# Altium schematic symbol library Sch_GB_lib.SchLib: 489 symbols (part 1 of 5)
Pins are listed as number, name and electrical type; pins without a type are passive.

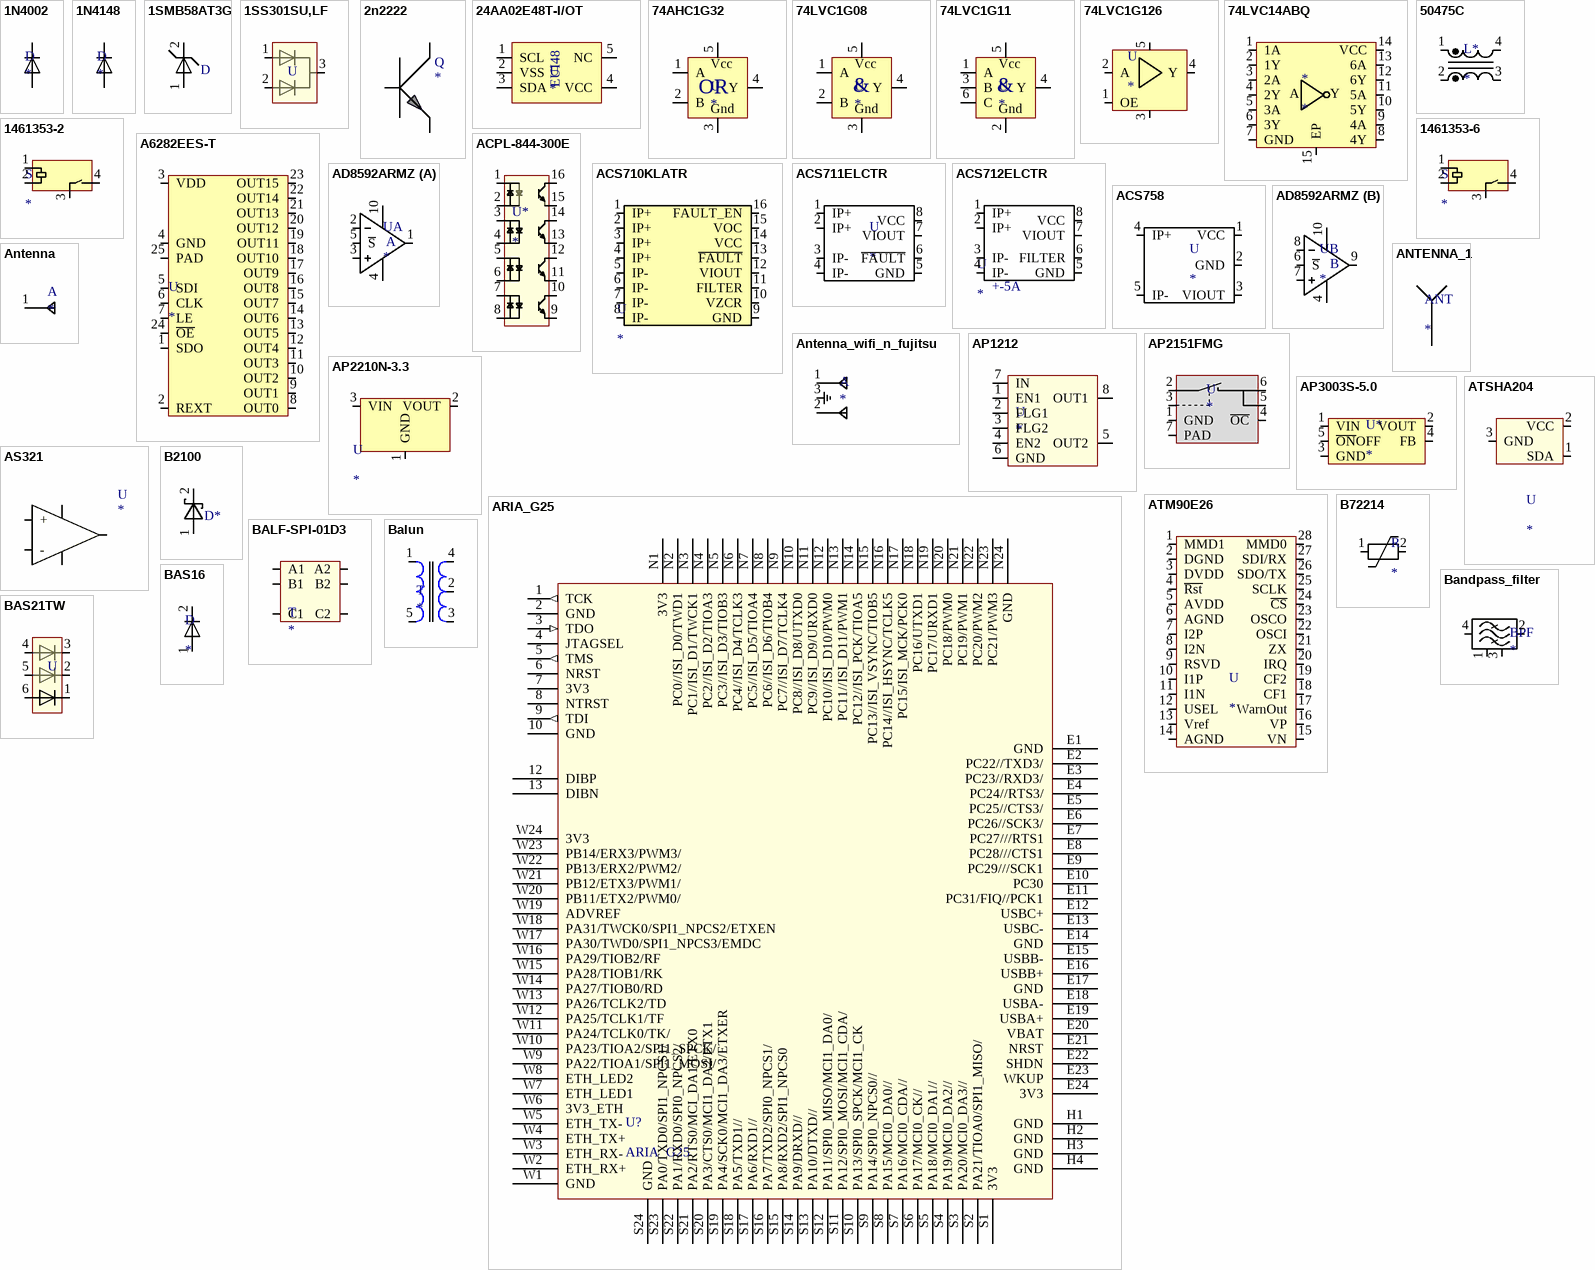
[diagram p0: symbols 1N4002 to BAS21TW]

## 1N4002
designator D
Farnell ref: 1858673; Digikey ref: 1N4002DICT-ND
footprint DO-35 (horizontal radial passive component, case 3.4mm,1.75mm diam.)
pins: 1, 2

## 1N4148
designator D
Farnell ref: 1612346
footprint DO-35 (horizontal radial passive component, case 3.4mm,1.75mm diam.)
pins: 1, 2

## 1SMB58AT3G
designator D  (value not drawn)
Digikey ref: 1SMB58AT3GOSCT-ND
footprint SMB (SMB, case 3.95x4.6x2.5mm)
pins: 1, 2

## 1SS301SU,LF
designator U  (value not drawn)
Digikey ref: 1SS301SULFCT-ND
footprint SC-70 (SC-70, 5 pins, pitch 0.65mm, case 2x1.25mm)
pins: 1, 2, 3

## 2n2222
designator Q
Farnell ref: 9801278
footprint TO18_2n2222a
pins: 1, 2, 3

## 24AA02E48T-I/OT
designator U
Farnell ref: 1688855; Digikey ref: 24AA02E48T-I/OTCT-ND
footprint SOT23-5 (SOT23, 5 pins, pitch 0.95mm, case 3x1.6mm)
pins: 1 SCL, 2 VSS, 3 SDA, 4 VCC, 5 NC
text: EUI48

## 74AHC1G32
designator U
Digikey ref: 74AHC1G32SE-7DICT-ND
footprint SOT23-5 (SOT23, 5 pins, pitch 0.95mm, case 3x1.6mm)
pins: 1 A, 2 B, 3 GND, 4 Y, 5 VCC
text: Vcc; OR; Gnd

## 74LVC1G08
designator U
Farnell ref: 1845210; Digikey ref: 74LVC1G08W5-7DICT-ND
footprint SOT23-5 (SOT23, 5 pins, pitch 0.95mm, case 3x1.6mm)
pins: 1 A, 2 B, 3 GND, 4 Y, 5 VCC
text: Vcc; &; Gnd

## 74LVC1G11
designator U
IC GATE AND 1CH 3-INP SOT-363; Manufacturer: Diodes Inc.; Manufacturer PartNum: 74LVC1G11DW-7; Digikey ref: 74LVC1G11DW-7CT-ND
footprint SOT363 (SOT353, 2.2x1.2mm package, 0.65mm spacing, low density)
pins: 1 A, 2 GND, 3 B, 4 Y, 5 Vcc, 6 C
text: &; Gnd

## 74LVC1G126
designator U
1 line buffer with OE, output tristate
footprint SOT353 (SOT353, 2.2x1.2mm package, 0.65mm spacing, low density)
pins: 1 OE (in), 2 A (in), 3 GND, 4 Y (out), 5 VCC

## 74LVC14ABQ
designator *
pins: 1 1A (in), 2 1Y (out), 3 2A (in), 4 2Y (out), 5 3A (in), 6 3Y (out), 7 GND, 8 4Y (out), 9 4A (in), 10 5Y (out), 11 5A (in), 12 6Y (out), 13 6A (in), 14 VCC, 15 EP
text: A; Y

## 50475C
designator L*
CHOKE COMMON MODE 4.7MH 0.4A SMD; Manufacturer PartNum: 50475C; Manufacturer: Murata; Digikey ref: 811-1186-1-ND
footprint 50475C (Murata, Choke common mode, SMD Package body 7*5.9*3.6mm)
pins: 1, 2, 3, 4

## 1461353-2
designator S
RELAY GENERAL PURPOSE SPST 5A 5V; Manufacturer PartNum: PCH-105L2MH,000; Manufacturer: TE Connectivity; Digikey ref: PB1652-ND
footprint relay_1461353 (RELAY GEN PURPOSE SPST 5A)
pins: 1 A2, 2 A1, 3 I, 4 O1

## 1461353-6
designator S
RELAY GEN PURPOSE SPST 5A 24V; Digikey ref: 1461353-6-ND
footprint relay_1461353-6 (RELAY GEN PURPOSE SPST 5A 24V)
pins: 1 A2, 2 A1, 3 I, 4 O1

## A6282EES-T
designator U
Farnell ref: 1650235
footprint QFN24 (QFN 24 pins, 4x4mm, 0.5mm)
pins: 1 SDO (out), 2 REXT, 3 VDD, 4 GND, 5 SDI (in), 6 CLK (in), 7 LE (in), 8 OUT0 (out), 9 OUT1 (out), 10 OUT2 (out), 11 OUT3 (out), 12 OUT4 (out), 13 OUT5 (out), 14 OUT6 (out), 15 OUT7 (out), 16 OUT8 (out), 17 OUT9 (out), 18 OUT10 (out), 19 OUT11 (out), 20 OUT12 (out), 21 OUT13 (out), 22 OUT14 (out), 23 OUT15 (out), 24 ~{OE} (in), 25 PAD

## ACPL-844-300E
designator U*
Digikey ref: 516-2622-5-ND
footprint DIL-16-SMD_BUTTERFLY (Optocoupler, SMD package, case 6.5x20x3.5mm)
pins: 1 IA1, 2 IB1, 3 IA2, 4 IB2, 5 IA3, 6 IB3, 7 IA4, 8 IB4, 9 E4, 10 C4, 11 E3, 12 C3, 13 E2, 14 C2, 15 E1, 16 C1

## ACS710KLATR
designator U
Farnell ref: 1791413; Digikey ref: 620-1334-1-ND
footprint SO16 (SO16, case 10.3x7.5mm, pitch 1.27mm, 16 leads)
pins: 1 IP+, 2 IP+, 3 IP+, 4 IP+, 5 IP-, 6 IP-, 7 IP-, 8 IP-, 9 GND, 10 VZCR, 11 FILTER, 12 VIOUT, 13 ~{FAULT}, 14 VCC, 15 VOC, 16 FAULT_EN

## ACS711ELCTR
designator U
Digikey ref: 620-1371-1-ND; Farnell ref: 2057424
footprint soic8 (soic8 CMS 8 leads, pitch 1.27mm)
pins: 1 IP+, 2 IP+, 3 IP-, 4 IP-, 5 GND, 6 ~{FAULT}, 7 VIOUT, 8 VCC

## ACS712ELCTR
designator U  Rated current: +-5A
Farnell ref: 1329623; Digikey ref: 620-1189-1-ND
footprint soic8 (soic8 CMS 8 leads, pitch 1.27mm)
pins: 1 IP+, 2 IP+, 3 IP-, 4 IP-, 5 GND, 6 FILTER, 7 VIOUT, 8 VCC

## ACS758
designator U
Farnell ref: 1791393
footprint ALLEGRO_PFF (hall effect current sensor)
pins: 1 VCC, 2 GND, 3 VIOUT, 4 IP+, 5 IP-

## AD8592ARMZ
designator U
Farnell ref: 9994270
footprint uSOIC (10 Leads uSOIC, pitch 0.5mm, 3.2x5.2mm)
part A pins: 1, 2, 3, 4, 5 ~{S}, 10
part B pins: 4, 6 ~{S}, 7, 8, 9, 10
part A text: A
part B text: B

## Antenna
designator A  (no BOM)
Farnell ref: *; Type: Microstrip
footprint Antenna_meander_2.4GHz (Meander-like PCB antenna for 2.4 GHz. Ideal for 0.7mm Core thickness)
pins: 1

## ANTENNA_1
designator ANT  (no BOM)
Input Power: Input Power Value; Impedance: Impedance Value; Digikey ref: 712-1399-6-ND; Farnell ref: *; Type: Antenna Model; Frequency Range: Frequency Range
footprint 0868AT43A0020 (868MHZ ANTENNA)
footprint 868AT43A0020_CCW (Chip antenna, 2-Leads, Body 7.0x2.0mm, IPC Medium Density)
pins: 1

## Antenna_wifi_n_fujitsu
designator A  (no BOM)
Type: Microstrip
footprint Antenna_double_2.4GHz_fujitsu (double microstrip antenna for 802.11n Fujistu module)
pins: 1, 2, 3 GND

## AP1212
designator U, comment Be careful concerning input EN polarity  (value not drawn)
Farnell ref: 1825302; Digikey ref: AP1212HSLDICT-ND; warn: be careful concerning input EN polarity; Comment_1: *
footprint soic8 (soic8 CMS 8 leads, pitch 1.27mm)
pins: 1 EN1, 2 FLG1, 3 FLG2, 4 EN2, 5 OUT2, 6 GND, 7 IN, 8 OUT1

## AP2151FMG
designator U
Digikey ref: AP2151FMG-7DICT-ND; Farnell ref: 1843872 pour boitier SOT25!
footprint DFN2018-6 (DFN2018-6 with thermal-pad, case 1.8x2mm, 6 pins, pitch 0.5mm)
pins: 1 GND (power), 2 Vin, 3 ON (in), 4 ~{OC}, 5 Vout, 6 Vout, 7 PAD (power)

## AP2210N-3.3
designator U
IC REG LDO 3.3V 0.3A SOT23; Manufacturer: Diodes Inc.; Manufacturer PartNum: AP2210N-3.3TRG1; Farnell ref: *; Digikey ref: AP2210N-3.3TRG1DICT-ND
footprint sot23 (SOT23, 2.9x1.3mm, 3 leads)
pins: 1 GND, 2 VOUT, 3 VIN

## AP3003S-5.0
designator U*
Buck Switching Regulator IC Positive Fixed 5V 1 Output 3A; Manufacturer PartNum: AP3003S-5.0TRE1; Manufacturer: Diodes Inc.; Digikey ref: AP3003S-5.0TRE1DICT-ND
footprint TO263_5 (TO263, 5 pins, 8.4x10mm package, 1.7mm pin spacing)
pins: 1 VIN, 2 VOUT, 3 GND, 4 FB, 5 ~{ON}OFF

## ARIA_G25
designator U?
footprint AB ARIA 1
pins: 1 TCK (out), 2 GND (power), 3 TDO (in), 4 JTAGSEL, 5 TMS (out), 6 NRST, 7 3V3 (power), 8 NTRST, 9 TDI (out), 10 GND, 12 DIBP, 13 DIBN, E1 GND, E2 PC22//TXD3/, E3 PC23//RXD3/, E4 PC24//RTS3/, E5 PC25//CTS3/, E6 PC26//SCK3/, E7 PC27///RTS1, E8 PC28///CTS1, E9 PC29///SCK1, E10 PC30, E11 PC31/FIQ//PCK1, E12 USBC+, E13 USBC-, E14 GND, E15 USBB-, E16 USBB+, E17 GND, E18 USBA-, E19 USBA+, E20 VBAT, E21 NRST, E22 SHDN, E23 WKUP, E24 3V3, H1 GND, H2 GND, H3 GND, H4 GND, N1 3V3, N2 PC0//ISI_D0/TWD1, N3 PC1//ISI_D1/TWCK1, N4 PC2//ISI_D2/TIOA3, N5 PC3//ISI_D3/TIOB3, N6 PC4//ISI_D4/TCLK3, N7 PC5//ISI_D5/TIOA4, N8 PC6//ISI_D6/TIOB4, N9 PC7//ISI_D7/TCLK4, N10 PC8//ISI_D8/UTXD0, N11 PC9//ISI_D9/URXD0, N12 PC10//ISI_D10/PWM0, N13 PC11//ISI_D11/PWM1, N14 PC12//ISI_PCK/TIOA5, N15 PC13//ISI_VSYNC/TIOB5, N16 PC14//ISI_HSYNC/TCLK5, N17 PC15/ISI_MCK/PCK0, N18 PC16/UTXD1, N19 PC17/URXD1, N20 PC18/PWM0, N21 PC19/PWM1, N22 PC20/PWM2, N23 PC21/PWM3, N24 GND, S1 3V3, S2 PA21/TIOA0/SPI1_MISO/, S3 PA20/MCI0_DA3//, S4 PA19/MCI0_DA2//, S5 PA18/MCI0_DA1//, S6 PA17/MCI0_CK//, S7 PA16/MCI0_CDA//, S8 PA15/MCI0_DA0//, S9 PA14/SPI0_NPCS0//, S10 PA13/SPI0_SPCK/MCI1_CK, S11 PA12/SPI0_MOSI/MCI1_CDA/, S12 PA11/SPI0_MISO/MCI1_DA0/, S13 PA10/DTXD//, S14 PA9/DRXD//, S15 PA8/RXD2/SPI1_NPCS0, S16 PA7/TXD2/SPI0_NPCS1/, S17 PA6/RXD1//, S18 PA5/TXD1//, S19 PA4/SCK0/MCI1_DA3/ETXER, S20 PA3/CTS0/MCI1_DA2/ETX1, S21 PA2/RTS0/MCI_DA1/ETX0, S22 PA1/RXD0/SPI0_NPCS2/, S23 PA0/TXD0/SPI1_NPCS1/, S24 GND, W1 GND (power), W2 ETH_RX+, W3 ETH_RX-, W4 ETH_TX+, W5 ETH_TX-, W6 3V3_ETH, W7 ETH_LED1, W8 ETH_LED2, W9 PA22/TIOA1/SPI1_MOSI/, W10 PA23/TIOA2/SPI1_SPCK/, W11 PA24/TCLK0/TK/, W12 PA25/TCLK1/TF, W13 PA26/TCLK2/TD, W14 PA27/TIOB0/RD, W15 PA28/TIOB1/RK, W16 PA29/TIOB2/RF, W17 PA30/TWD0/SPI1_NPCS3/EMDC, W18 PA31/TWCK0/SPI1_NPCS2/ETXEN, W19 ADVREF, W20 PB11/ETX2/PWM0/, W21 PB12/ETX3/PWM1/, W22 PB13/ERX2/PWM2/, W23 PB14/ERX3/PWM3/, W24 3V3

## AS321
designator U
IC OPAMP GEN PURP SOT25; Manufacturer PartNum: AS321KTR-G1; Manufacturer: Diodes Inc.; Farnell ref: 9778764RL; Digikey ref: AS321KTR-G1DICT-ND
footprint SOT23-5 (SOT23, 5 pins, pitch 0.95mm, case 3x1.6mm)
pins: 1 +, 2 Vee, 3 -, 4 OUT, 5 Vcc

## ATM90E26
designator U
IC ENERGY METER 1.8V/3V 28SSOP; Manufacturer: Atmel; Manufacturer PartNum: ATM90E26-YU-B; Digikey ref: ATM90E26-YU-B-ND
footprint SSOP28 (SOP, 28-Leads, Body 10.2x5.3mm, Pitch 0.65mm, IPC Medium Density)
pins: 1 MMD1, 2 DGND, 3 DVDD, 4 ~{Rst}, 5 AVDD, 6 AGND, 7 I2P, 8 I2N, 9 RSVD, 10 I1P, 11 I1N, 12 USEL, 13 Vref, 14 AGND, 15 VN, 16 VP, 17 WarnOut, 18 CF1, 19 CF2, 20 IRQ, 21 ZX, 22 OSCI, 23 OSCO, 24 ~{CS}, 25 SCLK, 26 SDO/TX, 27 SDI/RX, 28 MMD0

## ATSHA204
designator U
Digikey ref: ATSHA204-RBH-TCT-ND
footprint SOT23 (SOT23, 2.9x1.3mm, 3 leads)
pins: 1 SDA, 2 VCC, 3 GND

## B2100
designator D*  (value not drawn)
Farnell ref: 1858606; Digikey ref: B2100-FDICT-ND; status: *
footprint SMB (SMB, case 3.95x4.6x2.5mm)
pins: 1, 2

## B72214
designator R
Full reference: B72214P2351K101; Digikey ref: 495-6609-ND; Farnell: 1781931
footprint B72214*_TDK_Varistor (14mm diameter leaded varistor)
pins: 1, 2

## BALF-SPI-01D3
designator T
Manufacturer ref: BALF-SPI-01D3
footprint BALF-SPI-01D3_PCB (0.5mm pitch, 6 ball Balun , STMicro)
pins: 1 A1, 2 A2, 3 B1, 4 B2, 5 C2, 6 C1

## Balun
designator T
Manufacturer ref: WE748-421-245; Digikey ref: 732-2230-1-ND
footprint BALUN_WUERTH_0805 (Chip-Balun WE_BAL for 2400-2500 MHz, 50/100ohm)
pins: 1 Unbalanced Port IN, 2 GND or DC FEED, 3 Balanced Port OUT1, 4 Balanced Port OUT 2, 5 GND, 6 NC

## Bandpass_filter
designator BPF
Digikey ref: 712-1081-1-ND
footprint BAND_PASS_FILTER_JOHANSON_TECH (2.45 GHz Band Pass Filter 2450BP15E0100 0805)
pins: 1 GND, 2 OUT, 3 GND, 4 IN

## BAS16
designator D
BAS16 fast switching diode; Farnell ref: 1056496
footprint SOT23 (SOT23, 2.9x1.3mm, 3 leads)
pins: 1, 2

## BAS21TW
designator U  (value not drawn)
Digikey ref: BAS21TW-7DICT-ND
footprint SOT363 (SOT353, 2.2x1.2mm package, 0.65mm spacing, low density)
pins: 1, 2, 3, 4, 5, 6

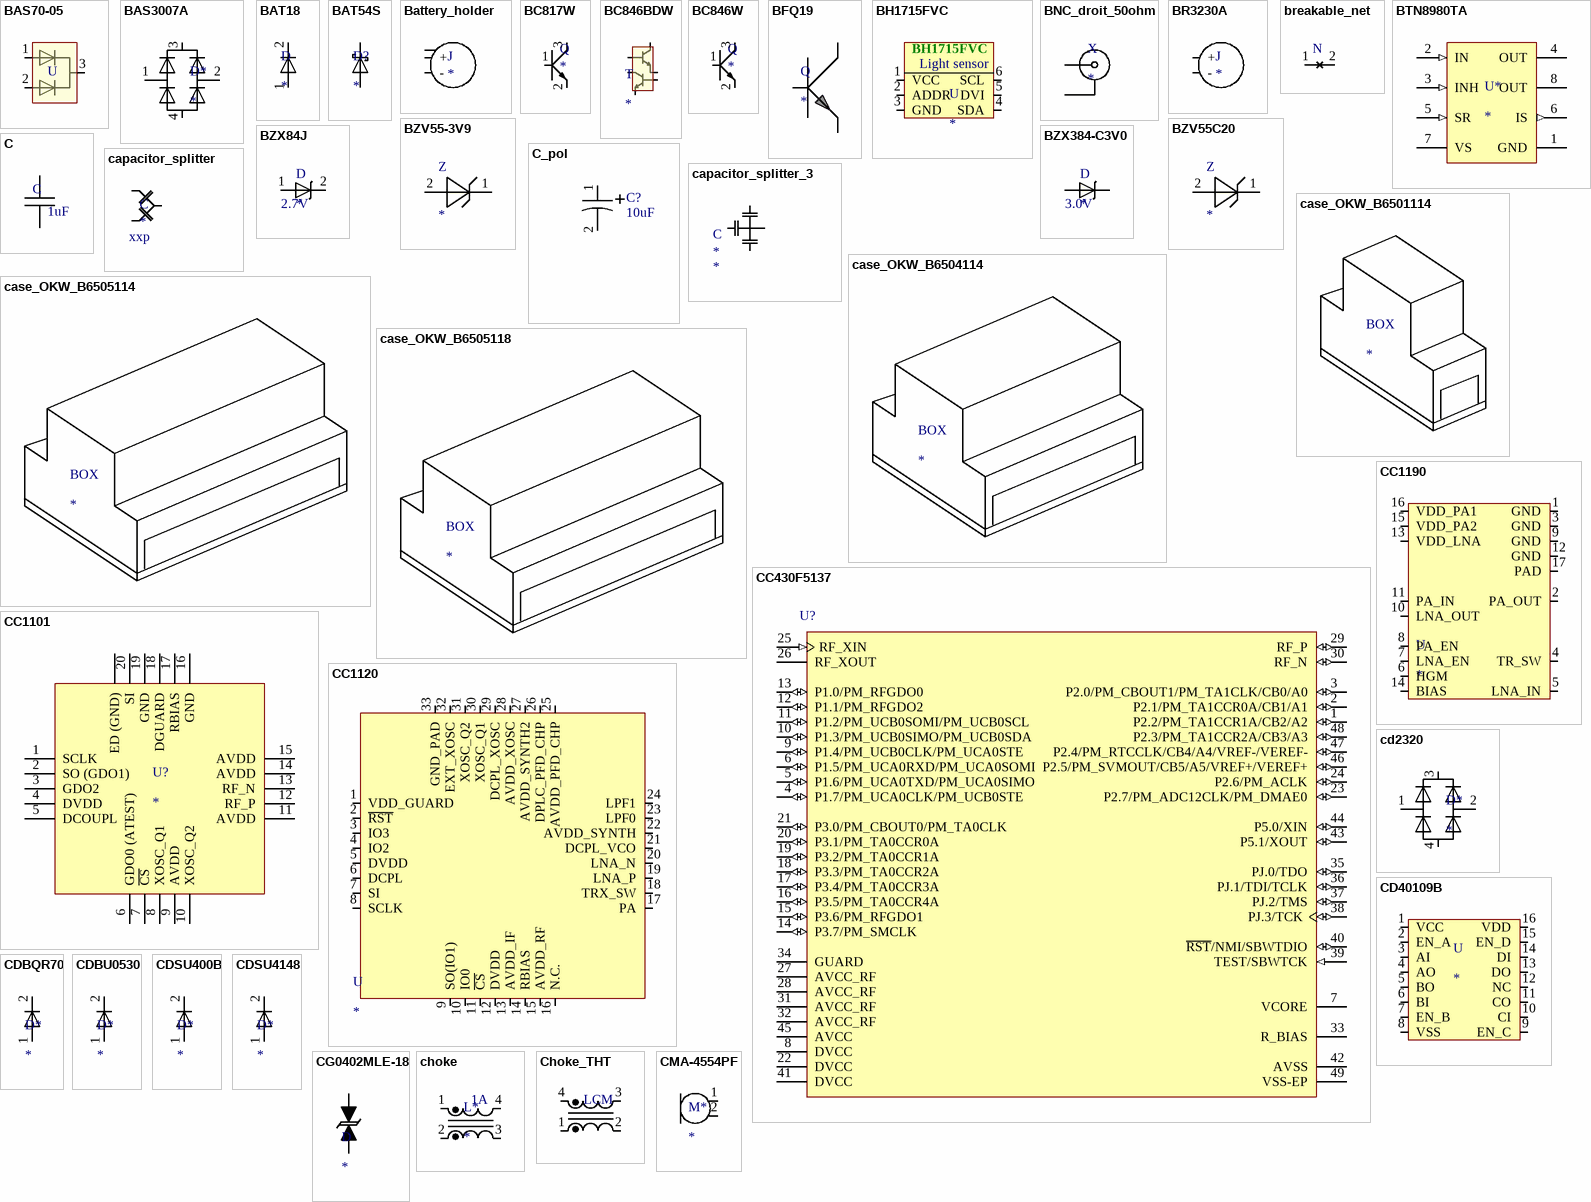
[diagram p1: symbols BAS70-05 to CMA-4554PF]

## BAS70-05
designator U  (value not drawn)
Digikey ref: BAS70-05-FDICT-ND; Farnell ref: 1843767
footprint SOT23 (SOT23, 2.9x1.3mm, 3 leads)
pins: 1, 2, 3

## BAS3007A
designator D*
DIODE SCHOTTKY 30V 900MA SOT143; Manufacturer PartNum: BAS 3007A-RPP E6327; Manufacturer: Infineon Technologies; Digikey ref: BAS3007A-RPPE6327INCT-ND; Farnell ref: *
footprint SOT143-4 (SOT143, 4-Leads, Body 2.9x1.3mm, Pitch 1.9mm, Lead Span 2.4mm, IPC High Density)
pins: 1 A1, 2 A2, 3 D+, 4 D-

## BAT18
designator D
BAT18 Switching diode; Farnell ref: 1081188
footprint SOT23-3 (SOT-23; 3 Leads; Body 3.0 x 2.5 mm, inc. leads (LxW max))
pins: 1, 2

## BAT54S
designator D?
SOT-23 Schottly diode; Farnell ref: 1621835
pins: 1, 2

## Battery_holder
designator J
Digikey ref: BK-912-ND
footprint BATT_HOLDER (MPD CR2032 battery holder, 23x3.2mm, positive on top)
pins: 1 +, 2 -, 3 +

## BC817W
designator Q
Manufacturer: NXP; Manufacturer PartNum: BC817W,115; Digikey ref: 568-6054-1-ND
footprint SOT323 (SOT323, 2.0x1.2mm, 3 leads, pitch 0.65mm)
pins: 1 Base, 2 Emitter, 3 Colloctor

## BC846BDW
designator T
Digikey ref: BC846BDW1T1GOSCT-ND
footprint SOT363 (SOT353, 2.2x1.2mm package, 0.65mm spacing, low density)
pins: 1 E2, 2 B2, 3 C1, 4 E1, 5 B1, 6 C2

## BC846W
designator Q
Digikey ref: 568-6063-1-ND; Farnell ref: 1907647
footprint SOT323 (SOT323, 2.0x1.2mm, 3 leads, pitch 0.65mm)
pins: 1 Base, 2 Emitter, 3 Colloctor

## BFQ19
designator Q
BFQ19, SOT89 NPN bipolar transistor; Farnell ref: 1081292
footprint SOT89 (SOT-89; Body 4.6 x 4.25 mm, inc. leads (LxW max); Reverse Pinning)
pins: 1, 2, 3

## BH1715FVC
designator U
ROHM 16bit digital ambiant light sensor IC
footprint BH1715FVC (ambiant light, digital 16bit, I2C sensor)
pins: 1 VCC, 2 ADDR, 3 GND, 4 SDA, 5 DVI, 6 SCL
text: Light sensor

## BNC_droit_50ohm
designator X
connecteur BNC; Farnell ref: 1205964
footprint BNC
pins: 1, 2

## BR3230A
designator J
BATTERY LITHIUM 3V COIN 23MM; Manufacturer: Panasonic; Manufacturer PartNum: BR-2330A/VAN; Digikey ref: P027-ND
footprint BR2330A (BATTERY LITHIUM 3V COIN 23MM)
pins: 1 +, 2 -

## breakable_net
designator N  (value not drawn)  (net tie, no BOM)
footprint breakable_net
pins: 1 ground, 2 signal_in

## BTN8980TA
designator U*
Digikey ref: BTN8980TAAUMA1CT-ND
footprint PG_TO263-7-1 (Plastic Green Transistor Single Outline Package)
pins: 1 GND (power) "Ground", 2 IN (in) "Input Defines whether high- or lowside switch is activated", 3 INH (in) "Inhibit  When set to low device goes in sleep mode", 4 OUT (power) "Power output of the bridge", 5 SR (in) "Slew Rate The slew rate of the power switches can be adjusted by connecting  a resistor between SR and GND", 6 IS (out) "Current Sense and Diagnostics", 7 VS (power) "Supply", 8 OUT (power) "Power output of the bridge"

## BZV55-3V9
designator Z
Farnell ref: 1097198RL
footprint SOD-80C (SMD, glass piped diode)
pins: 1, 2

## BZV55C20
designator Z
20 V zener diode; Farnell ref: 1466533
footprint SOD-80C (SMD, glass piped diode)
pins: 1, 2

## BZX84J
designator D  Vz: 2.7V
Digikey ref: 568-11214-1-ND
footprint SOD323 (SOD323F 1.8x1.35mm, total legth 2.7mm, lead width 0.4mm)
pins: 1, 2

## BZX384-C3V0
designator D  Vz: 3.0V
DIODE ZENER 3V 300MW SOD323; Manufacturer PartNum: BZX384-C3V0,115; Manufacturer: NXP; Digikey ref: 568-8043-1-ND
footprint SOD323 (SOD323F 1.8x1.35mm, total legth 2.7mm, lead width 0.4mm)
pins: 1, 2

## C
designator C  value 1uF  (hidden comment: *)
generic capacitor; Farnell ref: *
footprint 0402 (SMD 0402 package, 0.6x1.5mm)
footprint 0603c (standard 0603 FP)
footprint 0805 (standard 0805 FP)
pins: 1, 2

## C_pol
designator C?  value 10uF  (hidden comment: *)
Farnell ref: 9452486
footprint Cpol (Capa electrolytique)
footprint 1411 (standard 1411 FP)
pins: 1, 2

## capacitor_splitter
designator C  value xxp
status: *; Digikey ref: *; Farnell ref: *
footprint 0402_SPLITTER
pins: 1 IN, 2 OUT1, 3 OUT2

## capacitor_splitter_3
designator C
status: *; Digikey ref: *; Farnell ref: *; value: *
footprint 0402_SPLITTER_3
pins: 1 IN, 2 OUT1, 3 OUT2, 4 OUT3

## case_OKW_B6501114
designator BOX
OKW ref: B6501114; Size: 2U
footprint B6501114_2U (OKW B6501114 2U DIN case, 1 side open (screw header))

## case_OKW_B6504114
designator BOX
OKW ref: B6504114; Size: 6U
footprint B6504114_6U (OKW B6504114 6U DIN case, 1 side open (screw header))

## case_OKW_B6505114
designator BOX
OKW ref: B6505114; Size: 9U
footprint B6505114_9U (OKW B6505114 9U DIN case, 1 side open (screw header))

## case_OKW_B6505118
designator BOX
OKW ref: B6505118; Size: 9U
footprint B6505118_9U_custom (OKW B6505118 9U DIN case, 1 side open (screw header))

## CC430F5137
designator U?
Digikey ref: 296-25330-5-ND; Farnell ref: 1903415
footprint RGZ48 (QFN, 48-Leads, Body 7x7mm, Pitch 0.5mm, Thermal Pad 4.1x4.1mm, IPC Medium Density)
pins: 1 P2.2/PM_TA1CCR1A/CB2/A2 (io), 2 P2.1/PM_TA1CCR0A/CB1/A1 (io), 3 P2.0/PM_CBOUT1/PM_TA1CLK/CB0/A0 (io), 4 P1.7/PM_UCA0CLK/PM_UCB0STE (io), 5 P1.6/PM_UCA0TXD/PM_UCA0SIMO (io), 6 P1.5/PM_UCA0RXD/PM_UCA0SOMI (io), 7 VCORE "Regulated core power supply", 8 DVCC (power) "Digital power supply", 9 P1.4/PM_UCB0CLK/PM_UCA0STE (io), 10 P1.3/PM_UCB0SIMO/PM_UCB0SDA (io), 11 P1.2/PM_UCB0SOMI/PM_UCB0SCL (io), 12 P1.1/PM_RFGDO2 (io), 13 P1.0/PM_RFGDO0 (io), 14 P3.7/PM_SMCLK (io), 15 P3.6/PM_RFGDO1 (io), 16 P3.5/PM_TA0CCR4A (io), 17 P3.4/PM_TA0CCR3A (io), 18 P3.3/PM_TA0CCR2A (io), 19 P3.2/PM_TA0CCR1A (io), 20 P3.1/PM_TA0CCR0A (io), 21 P3.0/PM_CBOUT0/PM_TA0CLK (io), 22 DVCC (power) "Digital power supply", 23 P2.7/PM_ADC12CLK/PM_DMAE0 (io), 24 P2.6/PM_ACLK (io), 25 RF_XIN (in) "Input terminal for RF crystal oscillator, or external clock input", 26 RF_XOUT "Output terminal for RF crystal oscillator", 27 AVCC_RF (power) "Radio analog power supply", 28 AVCC_RF (power) "Radio analog power supply", 29 RF_P (io) "Positive RF input to LNA in receive mode Positive RF output from PA in transmit mode", 30 RF_N (io) "Negative RF input to LNA in receive mode Negative RF output from PA in transmit mode", 31 AVCC_RF (power) "Radio analog power supply", 32 AVCC_RF (power) "Radio analog power supply", 33 R_BIAS "External bias resistor for radio reference current", 34 GUARD (power) "Power supply connection for digital noise isolation", 35 PJ.0/TDO (io), 36 PJ.1/TDI/TCLK (io), 37 PJ.2/TMS (io), 38 PJ.3/TCK (io), 39 TEST/SBWTCK (in), 40 ~{RST}/NMI/SBWTDIO (io), 41 DVCC (power) "Digital power supply", 42 AVSS (power) "Analog ground supply for ADC12", 43 P5.1/XOUT (io), 44 P5.0/XIN (io), 45 AVCC (power) "Analog power supply", 46 P2.5/PM_SVMOUT/CB5/A5/VREF+/VEREF+ (io), 47 P2.4/PM_RTCCLK/CB4/A4/VREF-/VEREF- (io), 48 P2.3/PM_TA1CCR2A/CB3/A3 (io), 49 VSS-EP "Ground supply The exposed die attach pad must be connected to a solid ground plane as this is the ground connection for the chip."

## CC1101
designator U?
Low-Power Sub-1 GHz RF Transceiver; Farnell Part Number: 1468046; DigiKey Part Number: 296-21981-1-ND
footprint QFN20_LOW_DENSITY (QFN, 20-Leads, Body 4x4mm, Pitch 0.5mm, IPC Low Density)
pins: 1 SCLK "Serial Configuration Interface Clock Input", 2 SO (GDO1) "Serial Configuration Interface, Data Output / Optional general output pin when C\S\ is high", 3 GDO2 "Digital Output pin for general use: Test Signals/FIFO status signals/Clear Channel Indicator/Clock Output, down divided from XOSC / Serial Output RX Data", 4 DVDD "1.8-3.6V digital power supply for digital I/Os and for the digital core voltage regulator", 5 DCOUPL "1.6V-2.0V digital power supply output for decoupling", 6 GDO0 (ATEST) "Digital output pin for general use: Test signals / FIFO status signals / Cleaer channel indicator / Clock output, down-divided from XOSC / Serial output RX data / Serial input TX data", 7 ~{CS} "Serial Configuration Interface, Chip Select", 8 XOSC_Q1 "Crystal Oscillator Pin 1, or external clock input", 9 AVDD "1.8V-3.6V analog power supply connection", 10 XOSC_Q2 "Crystal Oscillator Pin2", 11 AVDD "1.8V-2.6V analog power supply connection", 12 RF_P "Positive RF input signal to LNA in receive mode / Positive RF output signal from PA in transmit mode", 13 RF_N "Negative RF input signal to LNA in receive mode / Negative RF output signal from PA in transmit mode", 14 AVDD "1.8-3.6V analog power supply connection", 15 AVDD "1.8-3.6V analog power supply connection", 16 GND "Analog Ground Connection", 17 RBIAS "External Bias Resistor for Reference current", 18 DGUARD "Power Supply Connection for digital noise isolation", 19 GND "Ground connection for digital noise isolation", 20 SI "Serial Configuration Interface, Data input", 21 ED (GND)

## CC1120
designator U
Digikey ref: 296-35667-1-ND; Farnell ref: *
footprint QFN32 (QFN 32 pins, 5x5mm, pitch 0.5mm)
pins: 1 VDD_GUARD "Serial Configuration Interface Clock Input", 2 ~{RST} "Serial Configuration Interface Clock Input", 3 IO3 "Serial Configuration Interface Clock Input", 4 IO2 "Serial Configuration Interface Clock Input", 5 DVDD "Serial Configuration Interface Clock Input", 6 DCPL "Serial Configuration Interface Clock Input", 7 SI "Serial Configuration Interface Clock Input", 8 SCLK "Serial Configuration Interface Clock Input", 9 SO(IO1) "Serial Configuration Interface Clock Input", 10 IO0 "Serial Configuration Interface Clock Input", 11 ~{CS} "Serial Configuration Interface Clock Input", 12 DVDD "Serial Configuration Interface Clock Input", 13 AVDD_IF "Serial Configuration Interface Clock Input", 14 RBIAS "Serial Configuration Interface Clock Input", 15 AVDD_RF "Serial Configuration Interface Clock Input", 16 N.C. "Serial Configuration Interface Clock Input", 17 PA "Serial Configuration Interface Clock Input", 18 TRX_SW "Serial Configuration Interface Clock Input", 19 LNA_P "Serial Configuration Interface Clock Input", 20 LNA_N "Serial Configuration Interface Clock Input", 21 DCPL_VCO "Serial Configuration Interface Clock Input", 22 AVDD_SYNTH "Serial Configuration Interface Clock Input", 23 LPF0 "Serial Configuration Interface Clock Input", 24 LPF1 "Serial Configuration Interface Clock Input", 25 AVDD_PFD_CHP "Serial Configuration Interface Clock Input", 26 DPLC_PFD_CHP "Serial Configuration Interface Clock Input", 27 AVDD_SYNTH2 "Serial Configuration Interface Clock Input", 28 AVDD_XOSC "Serial Configuration Interface Clock Input", 29 DCPL_XOSC "Serial Configuration Interface Clock Input", 30 XOSC_Q1 "Serial Configuration Interface Clock Input", 31 XOSC_Q2 "Serial Configuration Interface Clock Input", 32 EXT_XOSC "Serial Configuration Interface Clock Input", 33 GND_PAD "Serial Configuration Interface Clock Input"

## CC1190
designator U
Farnell ref: 1812186; Digikey ref: 296-25826-1-ND
footprint QFN16_N (QFN, 16-Leads, Body 4x4mm, Pitch 0.65mm, Thermal Pad 2.16x2.16mm, IPC Medium Density)
pins: 1 GND, 2 PA_OUT, 3 GND, 4 TR_SW, 5 LNA_IN, 6 HGM, 7 LNA_EN, 8 PA_EN, 9 GND, 10 LNA_OUT, 11 PA_IN, 12 GND, 13 VDD_LNA, 14 BIAS, 15 VDD_PA2, 16 VDD_PA1, 17 PAD

## cd2320
designator D*
Digikey ref: CD2320-B11000CT-ND; Farnell ref: *
footprint CD2320 (Bourns Surface mount bridge rectifier diode, case 5.3x5.8x1mm)
pins: 1 A1, 2 A2, 3 D+, 4 D-

## CD40109B
designator U
IC CMOS LO-HI V LVL SHFT 16TSSOP; Manufacturer PartNum: CD40109BPWR; Manufacturer: Texas Instruments; Digikey ref: 296-12163-1-ND
footprint TSSOP-ST16_N (TSOP, 16-Leads, Body 5x4.4mm, Pitch 0.65mm, IPC Medium Density)
pins: 1 VCC, 2 EN_A, 3 AI, 4 AO, 5 BO, 6 BI, 7 EN_B, 8 VSS, 9 EN_C, 10 CI, 11 CO, 12 NC, 13 DO, 14 DI, 15 EN_D, 16 VDD

## CDBQR70
designator D*
Manufacturer: Comchip Technology; Manufacturer PartNum: CDBQR70; Imax: 70mA; VF@Imax: 1.6V; Farnell ref: *; Digikey ref: 641-1281-1-ND
footprint 0402_POL (SMD 0402 package, polarized, 0.6x1.5mm)
pins: 1, 2

## CDBU0530
designator D*
Imax: 500mA; VF@Imax: 0.47V; Farnell ref: *; Digikey ref: 641-1285-1-ND
footprint 0603_Pol (standard 0603 FP polarized)
pins: 1, 2

## CDSU400B
designator D*
Imax: 100mA; VF@Imax: 1; Farnell ref: *; Digikey ref: 641-1003-1-ND
footprint 0603_Pol (standard 0603 FP polarized)
pins: 1, 2

## CDSU4148
designator D*
Imax: 150mA; VF@Imax: 1; Farnell ref: *; Digikey ref: 641-1001-1-ND
footprint 0603_Pol (standard 0603 FP polarized)
pins: 1, 2

## CG0402MLE-18
designator D
VARISTOR 0402; Manufacturer PartNum: CG0402MLE-18G; Manufacturer: Bourns; VClamp: 100V; Digikey ref: CG0402MLE-18GCT-ND
footprint 0402_ (SMD 0402 package, 0.6x1.5mm)
pins: 1, 2

## choke
designator L*  In: 1A
COMMON MODE CHOKE; Manufacturer PartNum: SRF0905-250Y; Manufacturer: Bourns Inc.; Reference 2: Wuerth 744227S; Digikey ref: SRF0905-250YDKR-ND
footprint choke_920x600 (common mode Choke, SMD Package body 9.2x6.0x5.3mm)
pins: 1, 2, 3, 4

## Choke_THT
designator LCM  (value not drawn)
Choke_THT_17x11x17mm_pads_8x7mm; Manufacturer: Taiyo Yuden; Manufacturer PartNum: TLF9UA502WR32K1; Alternate part1: KEMET SU9VF-05030; Alternate part2: Taiyo Yuden TLF9UA302WR42K1; Alternate part3: KEMET SU9V-R05034; Alternate part4: Bourns Inc. 7353-V-RC; Alternate part5: Wuerth Electronics Inc. 744862033; Inductance: 5mH; Current: 0.32A; Insulation voltage: 2500VAC; Rated voltage: 250V; Insulation Resistance: 100Mohm; Digikey ref: 587-2791-ND
footprint Choke_8x7mm (common mode Choke, THT package, body 17x11x17mm, pad spacing 8x7mm, 4 pins)
pins: 1, 2, 3, 4

## CMA-4554PF
designator M*
Digikey ref: 102-1721-ND; Farnell ref: *
footprint CMA-4544PF
pins: 1, 2

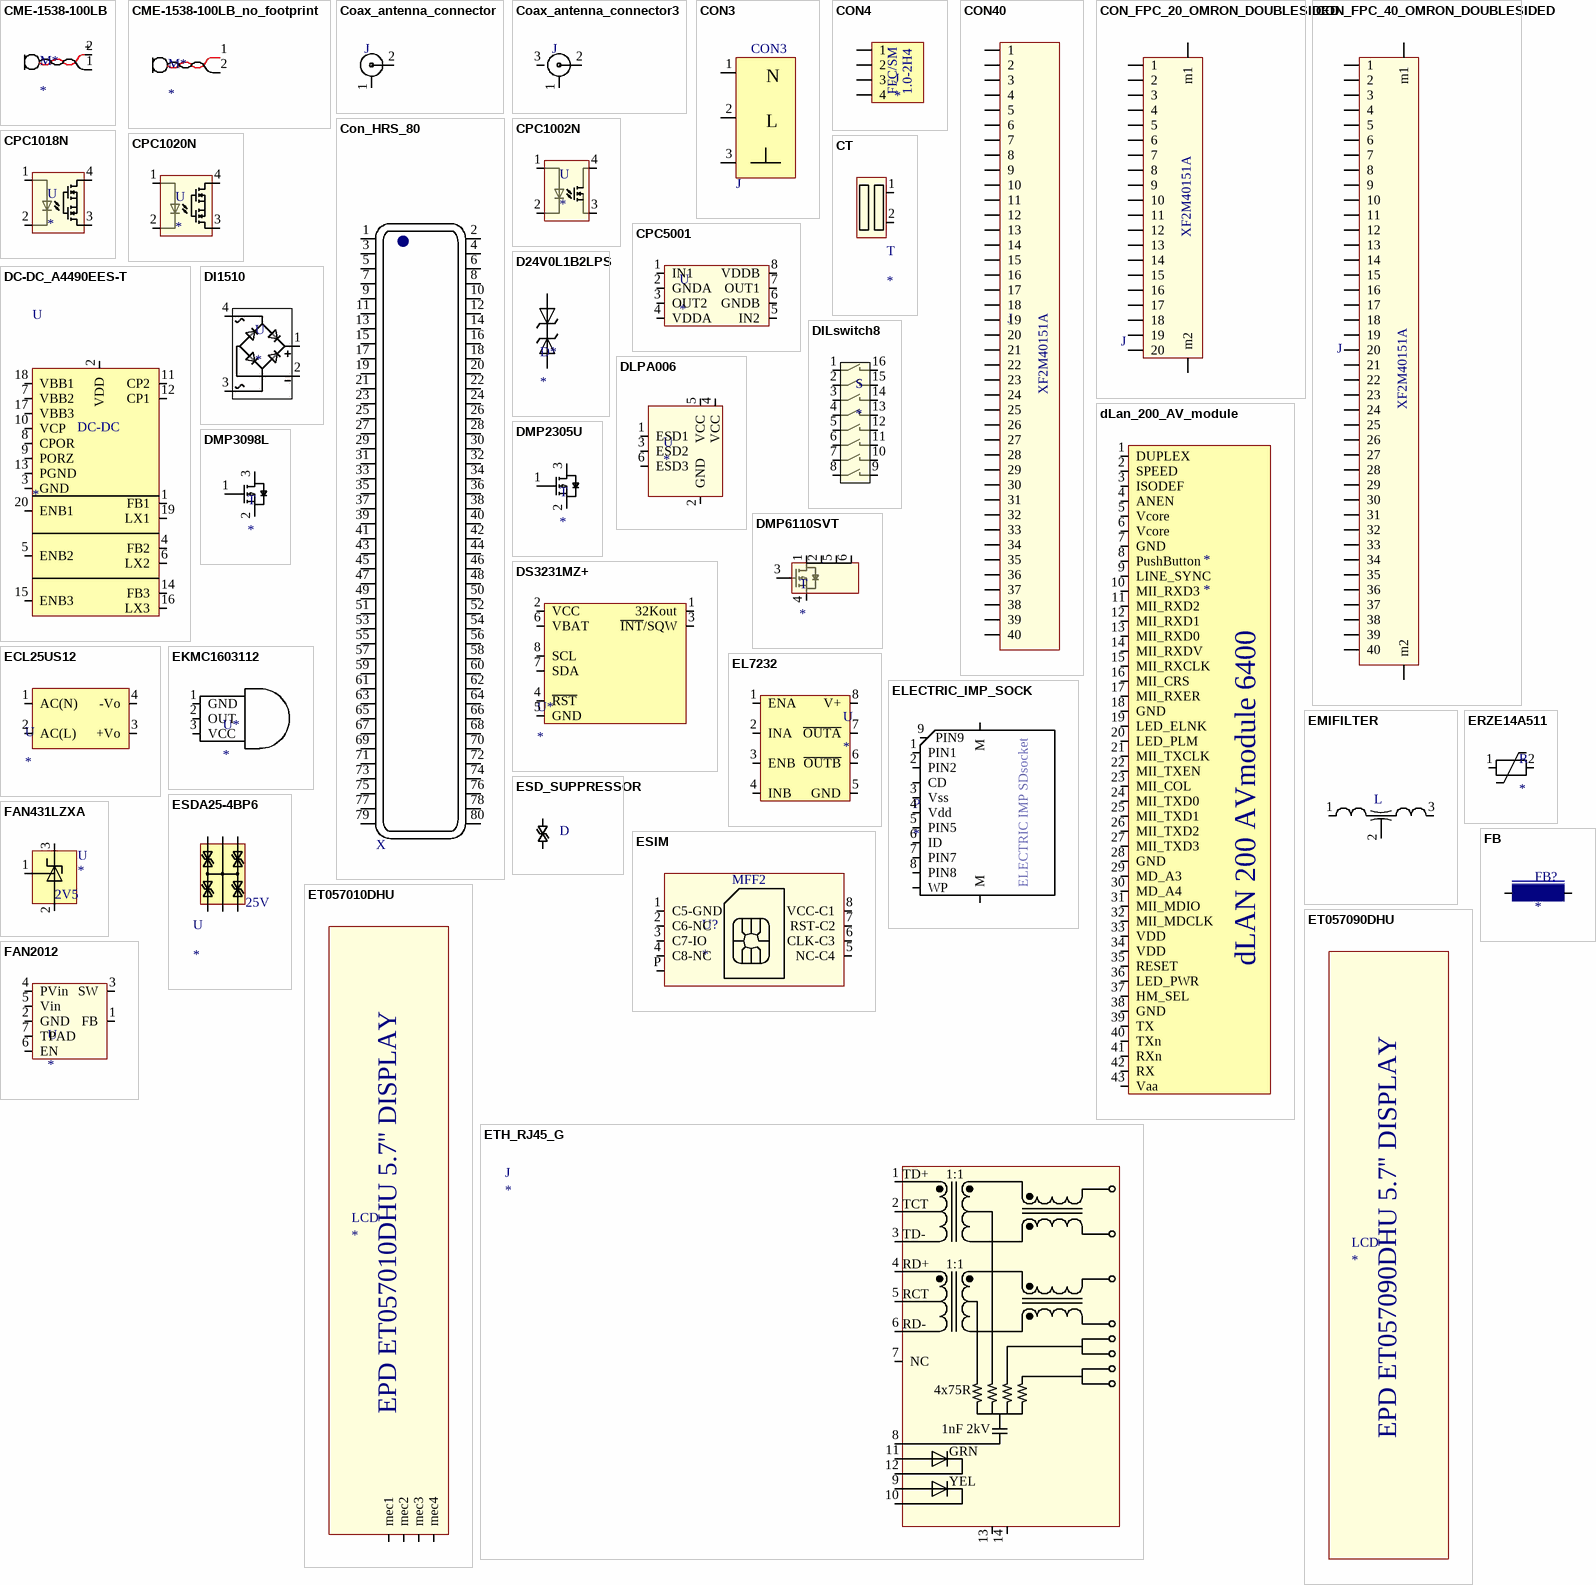
[diagram p2: symbols CME-1538-100LB to FB]

## CME-1538-100LB
designator M*
Digikey ref: 102-2190-ND; Farnell ref: *
footprint Micro_Electret_wired (polarized, Electret microphone, twisted pair)
pins: 1, 2
text: +

## CME-1538-100LB_no_footprint
designator M*  (mechanical)
Digikey ref: 102-2190-ND; Farnell ref: *
text: 1; 2

## Coax_antenna_connector
designator J  (value not drawn)
Farnell ref: 1688077; Digikey ref: H11891CT-ND
footprint coax_antenna_hirose_U.FL-R-SMT-1 (HRS (HIROSE) - U.FL-R-SMT-1(10) - EMBASE CMS U.FL)
pins: 1 ground, 2 signal_in

## Coax_antenna_connector3
designator J  (value not drawn)
Farnell ref: 1688077; Digikey ref: H11891CT-ND
footprint coax_antenna_hirose_U.FL-R-SMT-1_3 (HRS (HIROSE) - U.FL-R-SMT-1(10) - EMBASE CMS U.FL)
pins: 1 ground, 2 signal_in, 3 signal_out

## CON3
designator J  (value not drawn)
footprint HDR1X3
pins: 1, 2, 3
text: N; L

## CON4
designator J
Farnell ref: 1757086; Digikey ref: WM7937CT-ND
footprint MOLEX_CON_FPC1.0mm4 (CONNECTEUR. FPC. 1.0MM. 4 VOIES , MOLEX)
pins: 1, 2, 3, 4
text: FFC/SM; 1.0-2H4

## CON40
designator J  (value not drawn)
Farnell ref: 1112562; Digikey ref: OR729CT-ND
footprint XF2M40151A (OMRON - XF2M40151A - CONNECTEUR FPC ZIF 0.5MM 40 VOIES)
pins: 1, 2, 3, 4, 5, 6, 7, 8, 9, 10, 11, 12, 13, 14, 15, 16, 17, 18, 19, 20, 21, 22, 23, 24, 25, 26, 27, 28, 29, 30, 31, 32, 33, 34, 35, 36, 37, 38, 39, 40
text: XF2M40151A

## CON_FPC_20_OMRON_DOUBLESIDED
designator J  (value not drawn)
Farnell ref: 1463014; Digikey ref: OR719CT-ND
footprint XF2M20151A (OMRON - XF2M20151A - CONNECTEUR FPC ZIF 0.5MM 20 VOIES)
pins: 1, 2, 3, 4, 5, 6, 7, 8, 9, 10, 11, 12, 13, 14, 15, 16, 17, 18, 19, 20, 21 m1, 22 m2
text: XF2M40151A

## CON_FPC_40_OMRON_DOUBLESIDED
designator J  (value not drawn)
Farnell ref: 1112562; Digikey ref: OR729CT-ND
footprint XF2M40151A (OMRON - XF2M40151A - CONNECTEUR FPC ZIF 0.5MM 40 VOIES)
pins: 1, 2, 3, 4, 5, 6, 7, 8, 9, 10, 11, 12, 13, 14, 15, 16, 17, 18, 19, 20, 21, 22, 23, 24, 25, 26, 27, 28, 29, 30, 31, 32, 33, 34, 35, 36, 37, 38, 39, 40, 41 m1, 42 m2
text: XF2M40151A

## Con_HRS_80
designator X  (value not drawn)
Farnell ref: 1077746
footprint DF17C(4.0)-80DP-0.5V(57)
pins: 1, 2, 3, 4, 5, 6, 7, 8, 9, 10, 11, 12, 13, 14, 15, 16, 17, 18, 19, 20, 21, 22, 23, 24, 25, 26, 27, 28, 29, 30, 31, 32, 33, 34, 35, 36, 37, 38, 39, 40, 41, 42, 43, 44, 45, 46, 47, 48, 49, 50, 51, 52, 53, 54, 55, 56, 57, 58, 59, 60, 61, 62, 63, 64, 65, 66, 67, 68, 69, 70, 71, 72, 73, 74, 75, 76, 77, 78, 79, 80
text: .

## CPC1002N
designator U
Digikey ref: CLA230CT-ND; Farnell ref: *
footprint CPC10xxN (IXYS OptoMOS Relay, case 4x3.8x2.2mm)
pins: 1 A, 2 Ca, 3 DC-, 4 DC+

## CPC1018N
designator U
Manufacturer PartNum: CPC1018NTR; Manufacturer: IXYS Integrated; Digikey ref: CLA225CT-ND; Farnell ref: *
footprint CPC10xxN (IXYS OptoMOS Relay, case 4x3.8x2.2mm)
pins: 1 A, 2 Ca, 3 DC-, 4 DC+

## CPC1020N
designator U
Digikey ref: CLA318CT-ND; Farnell ref: *
footprint CPC10xxN (IXYS OptoMOS Relay, case 4x3.8x2.2mm)
pins: 1 A, 2 Ca, 3 DC-, 4 DC+

## CPC5001
designator U
OPTOISO 3.75KV 2CH OPEN DRN 8SMD; Manufacturer PartNum: CPC5001GSTR; Manufacturer: IXYS; Digikey ref: CLA407CT-ND; Farnell ref: *
footprint DIL8_SMD (DIL8, pitch 2.54mm, smd, "butterfly" edition)
pins: 1 IN1, 2 GNDA, 3 OUT2, 4 VDDA, 5 IN2, 6 GNDB, 7 OUT1, 8 VDDB

## CT
designator T
footprint CT_VAC_T60404-E4624 (T60404-E4624-X101)
pins: 1, 2

## D24V0L1B2LPS
designator D*
Vbreakdown: 24V; Digikey ref: D24V0L1B2LPS-7BDICT-ND
footprint U-DFN1006-2/SWP (1.05x0.65x0.53mm)
pins: 1, 2

## DC-DC_A4490EES-T
designator U
Prix: 3 Euro/1pce; Boitier: QFN20; Farnell ref: 1650232
footprint QFN20_LOW_DENSITY (QFN, 20-Leads, Body 4x4mm, Pitch 0.5mm, IPC Low Density)
pins: 1 FB1, 2 VDD, 3 GND, 4 FB2, 5 ENB2, 6 LX2, 7 VBB2, 8 CPOR, 9 PORZ, 10 VCP, 11 CP2, 12 CP1, 13 PGND, 14 FB3, 15 ENB3, 16 LX3, 17 VBB3, 18 VBB1, 19 LX1, 20 ENB1, 21 Thermalpad hidden to GND
text: DC-DC

## DI1510
designator U
full rectifier bridge, 1000V, 1.5A, Vfmax=1.1V; Farnell ref: 9380779
footprint DIL4_Rectifier (DIL4, Lead space 5.1mm, case max 8x8.5mm)
pins: 1, 2, 3, 4

## DILswitch8
designator S
DIL16 8 microswitch
footprint DIL8switch (DIL16 case for 8 microswitchs, SMD)
footprint DIP8SWITCH_HALF_PITCH (DIL16 case for 8 microswitchs, SMD, half pitch)
pins: 1, 2, 3, 4, 5, 6, 7, 8, 9, 10, 11, 12, 13, 14, 15, 16

## dLan_200_AV_module
designator *
footprint Devolo_dLAN_module (devolo® dLAN® 200 AVmodule)
pins: 1 DUPLEX, 2 SPEED, 3 ISODEF, 4 ANEN, 5 Vcore, 6 Vcore, 7 GND, 8 PushButton, 9 LINE_SYNC, 10 MII_RXD3, 11 MII_RXD2, 12 MII_RXD1, 13 MII_RXD0, 14 MII_RXDV, 15 MII_RXCLK, 16 MII_CRS, 17 MII_RXER, 18 GND, 19 LED_ELNK, 20 LED_PLM, 21 MII_TXCLK, 22 MII_TXEN, 23 MII_COL, 24 MII_TXD0, 25 MII_TXD1, 26 MII_TXD2, 27 MII_TXD3, 28 GND, 29 MD_A3, 30 MD_A4, 31 MII_MDIO, 32 MII_MDCLK, 33 VDD, 34 VDD, 35 RESET, 36 LED_PWR, 37 HM_SEL, 38 GND, 39 TX, 40 TXn, 41 RXn, 42 RX, 43 Vaa
text: dLAN 200 AVmodule 6400

## DLPA006
designator U
Manufacturer: Diodes Inc; Manufacturer PartNum: DLPA006-7; Digikey ref: DLPA006DICT-ND
footprint SOT363 (SOT353, 2.2x1.2mm package, 0.65mm spacing, low density)
pins: 1 ESD1, 2 GND, 3 ESD2, 4 VCC, 5 VCC, 6 ESD3

## DMP2305U
designator T
MOSFET P-CH 20V 4.2A SOT-23; Manufacturer_PartNum: DMP2305U-7; Manufacturer: Diodes Inc; Digikey ref: DMP2305UDICT-ND
footprint SOT23 (SOT23, 2.9x1.3mm, 3 leads)
pins: 1 G, 2 S, 3 D

## DMP3098L
designator T
Digikey ref: DMP3098LDICT-ND; Farnell ref: 1858616
footprint SOT23 (SOT23, 2.9x1.3mm, 3 leads)
pins: 1 G, 2 S, 3 D

## DMP6110SVT
designator T
Manufacturer PartNum: DMP6110SVT-13; Manufacturer: Diodes Inc.; VDSS: 60V; IDmax: 7.5A; Farnell ref: 1858616; Digikey ref: DMP6110SVT-13DICT-ND
footprint SOT23-6 (SOT23, 6 leads, pitch 0.95, 1.55x2.9mm)
pins: 1 D, 2 D, 3 G, 4 S, 5 D, 6 D

## DS3231MZ+
designator U*
Digikey ref: DS3231MZ+-ND; Farnell ref: *; Mouser ref: 700-DS3231MZ+
footprint SO8_N (SOIC, 8-Leads, Body 4.9x3.8mm, Pitch 1.27mm, IPC Medium Density)
pins: 1 32Kout, 2 VCC, 3 ~{INT}/SQW, 4 ~{RST}, 5 GND, 6 VBAT, 7 SDA, 8 SCL

## ECL25US12
designator U
Farnell ref: 1580482
footprint XPPower_ECL25 (XP Power AC/DC module, type ECL25, output 25W, case 78.7x38.1x27.9mm)
pins: 1 AC(N), 2 AC(L), 3 +Vo, 4 -Vo

## EKMC1603112
designator U*
SENSOR MOTION PIR 12M RANGE BLK; Manufacturer: Panasonic; Manufacturer PartNum: EKMC1603112; Digikey ref: 255-3087-ND
footprint EKMC1603112 (SENSOR MOTION PIR 12M RANGE BLK)
pins: 1 GND, 2 OUT, 3 VCC

## EL7232
designator U
H bridge driver; Farnell ref: 1562013
footprint soic8 (soic8 CMS 8 leads, pitch 1.27mm)
pins: 1 ENA, 2 INA, 3 ENB, 4 INB, 5 GND, 6 ~{OUTB}, 7 ~{OUTA}, 8 V+

## ELECTRIC_IMP_SOCK
designator P
Digikey ref: 101-00313-68-02CT-ND
footprint SD_card_socket_IMP (Amphenol 101-00313-68-02 CON SD 9pos Push-Push)
pins: 1 PIN1, 2 PIN2, 3 Vss, 4 Vdd, 5 PIN5, 6 ID, 7 PIN7, 8 PIN8, 9 PIN9, CD, m1 M, m2 M, WP
text: ELECTRIC IMP SDsocket

## EMIFILTER
designator L  (value not drawn)
Farnell ref: 9528172; Digikey ref: 490-2547-1-ND
footprint 1206_EMI_FILTER (1206 1.6x3.2mm for EMI filter)
pins: 1, 2, 3

## ERZE14A511
designator R
VARISTOR 459V 10KA DISC 16.5MM; Manufacturer PartNum: ERZ-E14A511; Manufacturer: Panasonic; Digikey ref: P15591-ND
footprint ERZE14A511 (Panasonic ZNR Type D Series E ,VARISTOR 16.5MM)
footprint ERZE14A511_VERTICAL (Panasonic ZNR Type D Series E ,VARISTOR 16.5MM)
pins: 1, 2

## ESD_SUPPRESSOR
designator D  (value not drawn)
Manufacturer: *; Manufacturer PartNum: *; Exact match: *
footprint 0402_ (SMD 0402 package, 0.6x1.5mm)
pins: 1, 2

## ESDA25-4BP6
designator U  Uclamp: 25V
Transil™ array for ESD protection; Digikey ref: 497-6968-1-ND
footprint SOT666 (SOP, 6-Flat Leads, Body 1.6x1.6x0.6mm, inc leads (LxWxH typ), Pitch 0.5mm, ST Recommended)
pins: 1 I/O1, 2 COM, 3 I/O2, 4 I/O3, 5 COM, 6 I/O4

## ESIM
designator U?
Generic ESIM chip symbol
footprint MFF2 (MFF2 PCB SIM 6x6x0.82mm, LEAD PITCH 1.27MM)
pins: 1 C5-GND, 2 C6-NC, 3 C7-IO, 4 C8-NC, 5 NC-C4, 6 CLK-C3, 7 RST-C2, 8 VCC-C1, P Mechanical pad, floating.
text: MFF2

## ET057010DHU
designator LCD
Manufacturer: Emerging display Technologies; Sales: www.m-comp.dk
footprint ET057010DHU_20mm (http://www.m-comp.dk/files/files/ET057010DHU-RoHS%20ver%203.pdf)
footprint ET057010DHU_10mm (http://www.m-comp.dk/files/files/ET057010DHU-RoHS%20ver%203.pdf)
footprint ET057010DHU_10mm_no_overlay_holes_only (http://www.m-comp.dk/files/files/ET057010DHU-RoHS%20ver%203.pdf)
pins: A mec1, B mec2, C mec3, D mec4
text: EPD ET057010DHU 5.7'' DISPLAY

## ET057090DHU
designator LCD
Manufacturer: Emerging display Technologies; Sales: www.m-comp.dk
footprint ET057090DHU_10mm_no_overlay_no_holes
text: EPD ET057090DHU 5.7'' DISPLAY

## ETH_RJ45_G
designator J
Generic Ethernet RJ45 connector. Multi-vendor; Manufacturer PartNum: J1B1211CCD; Manufacturer: WIZnet; PN 2: LINK-PP LPJ0012GDNL; PN 3: BEL SI-60062-F; Digikey ref: 1278-1052-ND
footprint RJ45_MAGJACK_GENERIC (Generic RJ45 Magjack footprint for LINK-PP LPJ0012GDNL, WIZnet J1B1211CCD, BEL SI-60062-F)
pins: 1 TD+, 2 TCT, 3 TD-, 4 RD+, 5 RCT, 6 RD-, 7 NC, 8 GND, 9 YEL+, 10 YEL-, 11 GRN+, 12 GRN-, 13 M1, 14 M2
text: 1:1; 4x75R; 1nF 2kV; GRN; YEL

## FAN431LZXA
designator U
Farnell ref: 1102132
footprint TO-92 (TO, Flat Index; 3 In-Line, Axial Leads; Body Dia. 5.1mm; Leads 0.48 x 0.48 mm (max))
pins: 1, 2, 3
text: 2V5

## FAN2012
designator U
5V input step-down, 1.5A 1.3MHz; Farnell ref: 1467371
footprint MLP6_3x3 (3x3mm 6 leads MLP)
pins: 1 FB, 2 GND, 3 SW, 4 PVin, 5 Vin, 6 EN, 7 TPAD

## FB
designator FB?
Farnell ref: 1515660
footprint 0805 (standard 0805 FP)
pins: 1, 2

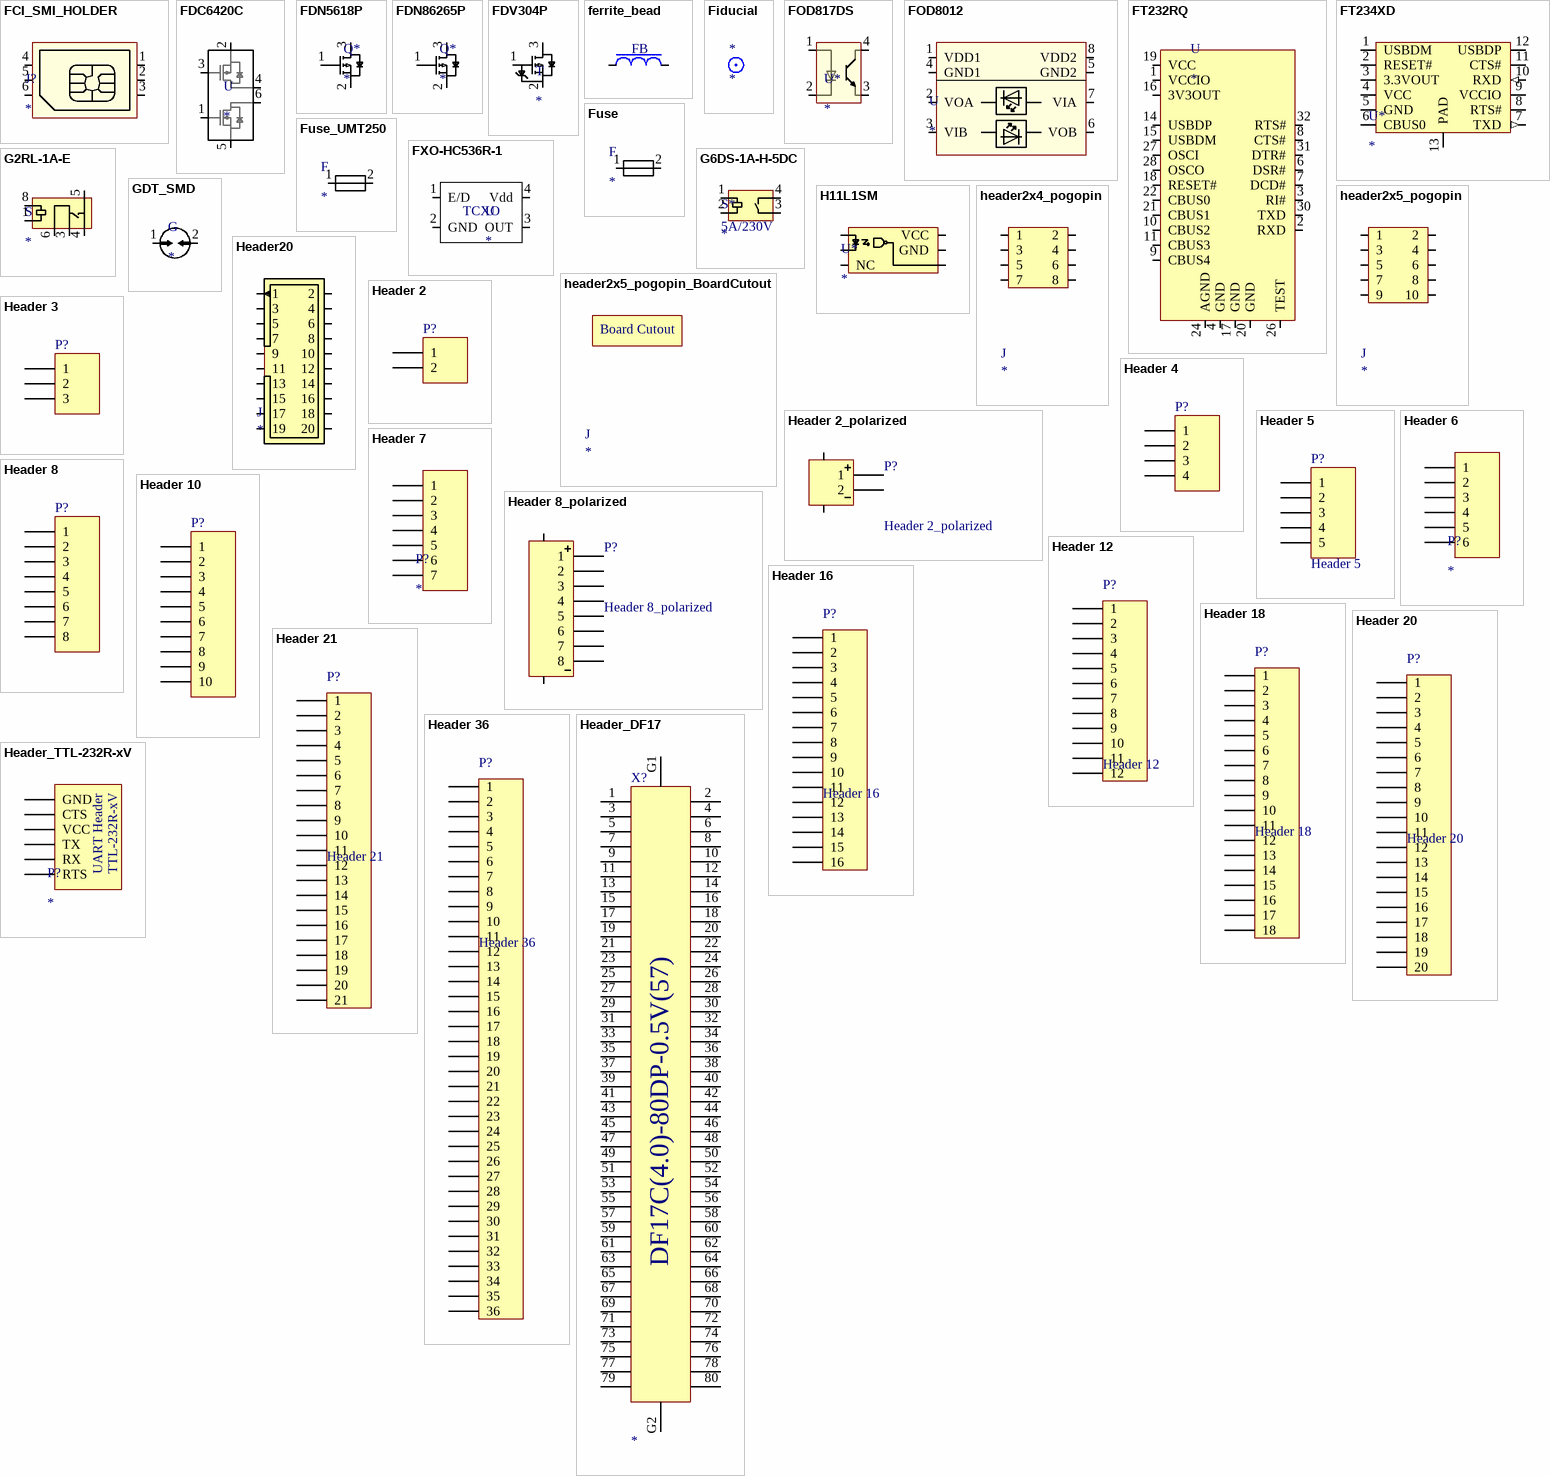
[diagram p3: symbols FCI_SMI_HOLDER to Header_TTL-232R-xV]

## FCI_SMI_HOLDER
designator J?
Digikey ref: 609-1401-1-ND; Farnell ref: 2112527
footprint FCI_SIM_HOLDER (FCI 7111S2015X02 SIM HOLDER)
pins: 1 VSIM, 2 RST, 3 CLK, 4 GND, 5 NC, 6 DATA

## FDC6420C
designator U
SOT23-6 dual P/N MOSFET; Farnell ref: 1467968
footprint SOT23-6 (SOT23, 6 leads, pitch 0.95, 1.55x2.9mm)
pins: 1, 2, 3, 4, 5, 6

## FDN5618P
designator Q*
MOSFET P-CH 60V 1.25A SSOT3; Manufacturer PartNum: FDN5618P; Manufacturer: Fairchild; Digikey ref: FDN5618PCT-ND
footprint SOT23 (SOT23, 2.9x1.3mm, 3 leads)
pins: 1 G, 2 S, 3 D

## FDN86265P
designator Q*
Digikey ref: FDN86265PCT-ND
footprint SOT23 (SOT23, 2.9x1.3mm, 3 leads)
pins: 1 G, 2 S, 3 D

## FDV304P
designator T
Digikey ref: FDV304PCT-ND; Farnell ref: 9846123RL
footprint SOT23 (SOT23, 2.9x1.3mm, 3 leads)
pins: 1 G, 2 S, 3 D

## ferrite_bead
designator FB  (value not drawn)
Farnell ref: 1635732RL; Digikey ref: 732-1613-1-ND
footprint 0805 (standard 0805 FP)
pins: 1, 2

## Fiducial
designator *  (no BOM)
footprint FIDUCIAL
pins: 0 hidden

## FOD817DS
designator U*
OPTOISOLATOR 5KV TRANSISTOR 4SMD; Manufacturer: Fairchild Semi; Manufacturer PartNum: FOD817DS; Digikey ref: FOD817DS-ND; Farnell ref: FOD817DS
footprint PC817 (Optocoupler, SMD package, case 6.5x4.6x3.5mm)
pins: 1 A, 2 Ca, 3 E, 4 C

## FOD8012
designator U
Farnell ref: 2083181; Digikey ref: FOD8012-ND
footprint soic8_HIGH (soic8 CMS 8 leads, pitch 1.27mm, case height 3.63mm)
pins: 1 VDD1, 2 VOA, 3 VIB, 4 GND1, 5 GND2, 6 VOB, 7 VIA, 8 VDD2

## FT232RQ
designator U
QFN32 UART-USB bridge; Prix: 5.72 Euro/1pce; Farnell ref: 1146033
footprint FT232RQ_QFN32_M (32-Pin Quad Flat No-Lead 0.5 mm Pitch, IPC Low Density)
pins: 1 VCCIO, 2 RXD, 3 RI#, 4 GND, 5 NC hidden, 6 DSR#, 7 DCD#, 8 CTS#, 9 CBUS4, 10 CBUS2, 11 CBUS3, 12 NC hidden, 13 NC hidden, 14 USBDP, 15 USBDM, 16 3V3OUT, 17 GND, 18 RESET#, 19 VCC, 20 GND, 21 CBUS1, 22 CBUS0, 23 NC hidden, 24 AGND, 25 NC hidden, 26 TEST, 27 OSCI, 28 OSCO, 29 NC hidden, 30 TXD, 31 DTR#, 32 RTS#

## FT234XD
designator U*
Digikey ref: 768-1178-1-ND; Farnell ref: *
footprint DFN12
pins: 1 USBDM "USB Data Signal Minus.", 2 RESET# "Reset input (active low).", 3 3.3VOUT "3.3V output at 50mA. May be used to power VCCIO. When VCC is 3.3V; pin 3 is an input pin and should be connected to pin 4.", 4 VCC "5 V (or 3.3V) supply to IC", 5 GND "0V Ground input.", 6 CBUS0 "Configurable CBUS I/O Pin. Function of this pin is configured in the device MTP memory. The default configuration is TXDEN.", 7 TXD (out) "Transmit Asynchronous Data Output.", 8 RTS# "Request to Send Control Output / Handshake Signal.", 9 VCCIO "1.8V - 3.3V supply for the IO cells", 10 RXD (in) "Receiving Asynchronous Data Input.", 11 CTS# "Clear To Send Control Input / Handshake Signal.", 12 USBDP "USB Data Signal Plus.", 13 PAD "0V Ground input."

## Fuse
designator F
footprint FUSE_UMT250 (Schurter Surgace Mount Fuse, 10.1x3mm)
footprint Fuse_radial (Fuse, radial, 8.5x8x4mm, pitch 5.08mm, lead 4mm)
pins: 1, 2

## Fuse_UMT250
designator F
Calibre: 1A; Unominal: 250V; Digikey ref: 486-1247-ND; Farnell ref: 1221090; Mouser ref: 693-3403.0166.11; Type: Temporisé
footprint FUSE_UMT250 (Schurter Surgace Mount Fuse, 10.1x3mm)
pins: 1, 2

## FXO-HC536R-1
designator U
HCMOS,CERAMIC,SMD,OSCILLATOR; Farnell ref: 1641020
footprint FXO-HC536R-1 (HCMOS, CERAMIC, SMD, OSCILLATOR)
pins: 1 E/D, 2 GND, 3 OUT, 4 Vdd
text: TCXO

## G2RL-1A-E
designator S
OMRON Relay 230V 16A monostable, High capacity; Farnell ref: 1695877; Digikey ref: Z3080-ND
footprint G2RL-1A-E (Omron power relay 1 contact with double terminals)
pins: 1 C1, 3 A, 4 B, 5 B, 6 A, 8 C2

## G6DS-1A-H-5DC
designator S*  Ratings: 5A/230V
RELAY GENERAL PURPOSE SPST 5A 5V; Manufacturer PartNum: G6DS-1A-H DC5; Manufacturer: Omron Electronics; Digikey ref: Z2320-ND
footprint OMRON_G6DS (Slim, Miniature Relay with 1-pole 5-A  Switching Capability)
pins: 1 A2, 2 A1, 3 I, 4 O1

## GDT_SMD
designator G
GDT SURFACE MOUNT; Manufacturer PartNum: 2031-23T-SM-RPLF; Manufacturer: Bourns Inc.; Digikey ref: 2031-23T-SM-RPLFCT-ND
footprint GDT_2031_xxT_SM (Bourns, GDT SURFACE MOUNT, 4.4x5.0mm, 2 poles)
pins: 1 C1, 2 C2

## H11L1SM
designator U*
OPTOISO 4.17KV OPN COLL 6SMD; Manufacturer PartNum: H11L1SM; Manufacturer: Fairchild Semi; Ion: 1.6mA max; Digikey ref: H11L1SM-ND
footprint SMT6_LeadBent (Optocoupler, SMD non standard package, case 6.5x8.5*3.5mm)
pins: 1 A, 2 C, 3 NC, 4 VO, 5 GND, 6 VCC

## header2x4_pogopin
designator J  (no BOM)
Farnell ref: *
footprint header2x10 (header 2x10 pins, path 2.54mm)
footprint HDR2x4_pogopin (Test point for Pogo pin contact)
pins: 1, 2, 3, 4, 5, 6, 7, 8

## header2x5_pogopin
designator J  (no BOM)
Farnell ref: *
footprint header2x10 (header 2x10 pins, path 2.54mm)
footprint HDR2x5_pogopin (Test point for Pogo pin contact)
pins: 1, 2, 3, 4, 5, 6, 7, 8, 9, 10

## header2x5_pogopin_BoardCutout
designator J  (no BOM)
Farnell ref: *
footprint HDR2x5_pogopin_BoardCutout
text: Board Cutout

## Header20
designator J
Digikey ref: S9172-ND; Farnell ref: *
footprint header2x10 (header 2x10 pins, path 2.54mm)
pins: 1, 2, 3, 4, 5, 6, 7, 8, 9, 10, 11, 12, 13, 14, 15, 16, 17, 18, 19, 20

## Header 2
designator P?
Header, 2-Pin; LatestRevisionDate: 17-Jul-2002; LatestRevisionNote: Re-released for DXP Platform.; Publisher: Altium Limited
footprint HDR1X2 (Connector; Header; 2 Position)
signal-integrity model Connector
pins: 1, 2

## Header 2_polarized
designator P?
Header, 2-Pin; LatestRevisionDate: 17-Jul-2002; LatestRevisionNote: Re-released for DXP Platform.; Publisher: Altium Limited
footprint S2B-PH-SM4-TB (JST Side entry type, header, pitch 2mm, male)
pins: 1, 2, M, M

## Header 3
designator P?
Header, 3-Pin; LatestRevisionDate: 17-Jul-2002; LatestRevisionNote: Re-released for DXP Platform.; Publisher: Altium Limited
footprint HDR1X3 (Connector; Header; 3 Position)
signal-integrity model Connector
pins: 1, 2, 3

## Header 4
designator P?
Header, 4-Pin; LatestRevisionDate: 17-Jul-2002; LatestRevisionNote: Re-released for DXP Platform.; Publisher: Altium Limited
footprint HDR1X4 (Connector; Header; 4 Position)
signal-integrity model Connector
pins: 1, 2, 3, 4

## Header 5
designator P?
Header, 5-Pin; LatestRevisionDate: 17-Jul-2002; LatestRevisionNote: Re-released for DXP Platform.; Publisher: Altium Limited
footprint HDR1X5 (Connector; Header; 5 Position)
signal-integrity model Connector
pins: 1, 2, 3, 4, 5

## Header 6
designator P?
Header, 6-Pin; Digikey ref: *; Farnell ref: *
footprint HDR1X6
pins: 1, 2, 3, 4, 5, 6

## Header 7
designator P?
Header, 7-Pin; Digikey ref: *; Farnell ref: *
footprint PTHConn7 (Plated Through Hole board edge for wire soldering, 7 pos)
pins: 1, 2, 3, 4, 5, 6, 7

## Header 8
designator P?
Header, 8-Pin; LatestRevisionDate: 17-Jul-2002; LatestRevisionNote: Re-released for DXP Platform.; Publisher: Altium Limited
footprint HDR1X8 (Connector; Header; 8 Position)
signal-integrity model Connector
pins: 1, 2, 3, 4, 5, 6, 7, 8

## Header 8_polarized
designator P?
Header, 8-Pin; LatestRevisionDate: 17-Jul-2002; LatestRevisionNote: Re-released for DXP Platform.; Publisher: Altium Limited
footprint S8B-PH-SM4-TB (JST Side entry type, header, pitch 2mm, male)
pins: 1, 2, 3, 4, 5, 6, 7, 8, M, M

## Header 10
designator P?
Header, 10-Pin; LatestRevisionDate: 17-Jul-2002; LatestRevisionNote: Re-released for DXP Platform.; Publisher: Altium Limited
footprint HDR1X10 (Connector; Header; 10 Position)
signal-integrity model Connector
pins: 1, 2, 3, 4, 5, 6, 7, 8, 9, 10

## Header 12
designator P?
Header, 10-Pin; LatestRevisionDate: 17-Jul-2002; LatestRevisionNote: Re-released for DXP Platform.; Publisher: Altium Limited
signal-integrity model Connector
footprint header12_phoenix (Phoenix contact, screw, 12 contacts, pitch 5.08mm)
footprint HDR1X12 (Connector; Header; 20 Position)
pins: 1, 2, 3, 4, 5, 6, 7, 8, 9, 10, 11, 12

## Header 16
designator P?
Header, 10-Pin; LatestRevisionDate: 17-Jul-2002; LatestRevisionNote: Re-released for DXP Platform.; Publisher: Altium Limited
footprint header2x8 (header female 2x8 pins, path 2.54mm)
pins: 1, 2, 3, 4, 5, 6, 7, 8, 9, 10, 11, 12, 13, 14, 15, 16

## Header 18
designator P?
Header, 10-Pin; LatestRevisionDate: 17-Jul-2002; LatestRevisionNote: Re-released for DXP Platform.; Publisher: Altium Limited
footprint PHOENIX_PTSA05_18 (PHOENIX contacts, sPTSA0,5/ 18-2,5-Z - TERM BLOCK, PCB, 2.5MM, 18WAY)
pins: 1, 2, 3, 4, 5, 6, 7, 8, 9, 10, 11, 12, 13, 14, 15, 16, 17, 18

## Header 20
designator P?
Header, 20-Pin; LatestRevisionDate: 17-Jul-2002; LatestRevisionNote: Re-released for DXP Platform.; Publisher: Altium Limited
footprint PHOENIX_PTSA05_20 (PHOENIX contacts, sPTSA0,5/ 20-2,5-Z - TERM BLOCK, PCB, 2.5MM, 20WAY)
pins: 1, 2, 3, 4, 5, 6, 7, 8, 9, 10, 11, 12, 13, 14, 15, 16, 17, 18, 19, 20

## Header 21
designator P?
Header, 20-Pin; LatestRevisionDate: 17-Jul-2002; LatestRevisionNote: Re-released for DXP Platform.; Publisher: Altium Limited
footprint PHOENIX_PTSA05_21 (PHOENIX contacts, sPTSA0,5/ 21-2,5-Z - TERM BLOCK, PCB, 2.5MM, 21WAY)
pins: 1, 2, 3, 4, 5, 6, 7, 8, 9, 10, 11, 12, 13, 14, 15, 16, 17, 18, 19, 20, 21

## Header 36
designator P?
Header, 36-Pin; Manufacturer PartNum: 1990164; Manufacturer: Phoenix Contact; LatestRevisionDate: 17-Jul-2002; LatestRevisionNote: Re-released for DXP Platform.; Publisher: Altium Limited; Digikey ref: 277-1810-ND
footprint PHOENIX_PTSA05_36 (PHOENIX contacts, sPTSA0,5/ 36  TERM BLOCK, PCB, 2.5MM, 36WAY)
pins: 1, 2, 3, 4, 5, 6, 7, 8, 9, 10, 11, 12, 13, 14, 15, 16, 17, 18, 19, 20, 21, 22, 23, 24, 25, 26, 27, 28, 29, 30, 31, 32, 33, 34, 35, 36

## Header_DF17
designator X?
Farnell ref: 1077746
footprint DF17_single_conn (Mezzanine, Hirose DF17)
footprint DF17_SINGLE_CONN_BOTTOM
pins: 1, 2, 3, 4, 5, 6, 7, 8, 9, 10, 11, 12, 13, 14, 15, 16, 17, 18, 19, 20, 21, 22, 23, 24, 25, 26, 27, 28, 29, 30, 31, 32, 33, 34, 35, 36, 37, 38, 39, 40, 41, 42, 43, 44, 45, 46, 47, 48, 49, 50, 51, 52, 53, 54, 55, 56, 57, 58, 59, 60, 61, 62, 63, 64, 65, 66, 67, 68, 69, 70, 71, 72, 73, 74, 75, 76, 77, 78, 79, 80, G1, G2
text: DF17C(4.0)-80DP-0.5V(57)

## Header_TTL-232R-xV
designator P?
Header, 6-Pin; Digikey ref: *; Farnell ref: *
footprint HDR1X6
pins: 1 GND, 2 CTS, 3 VCC, 4 TX, 5 RX, 6 RTS
text: UART Header; TTL-232R-xV

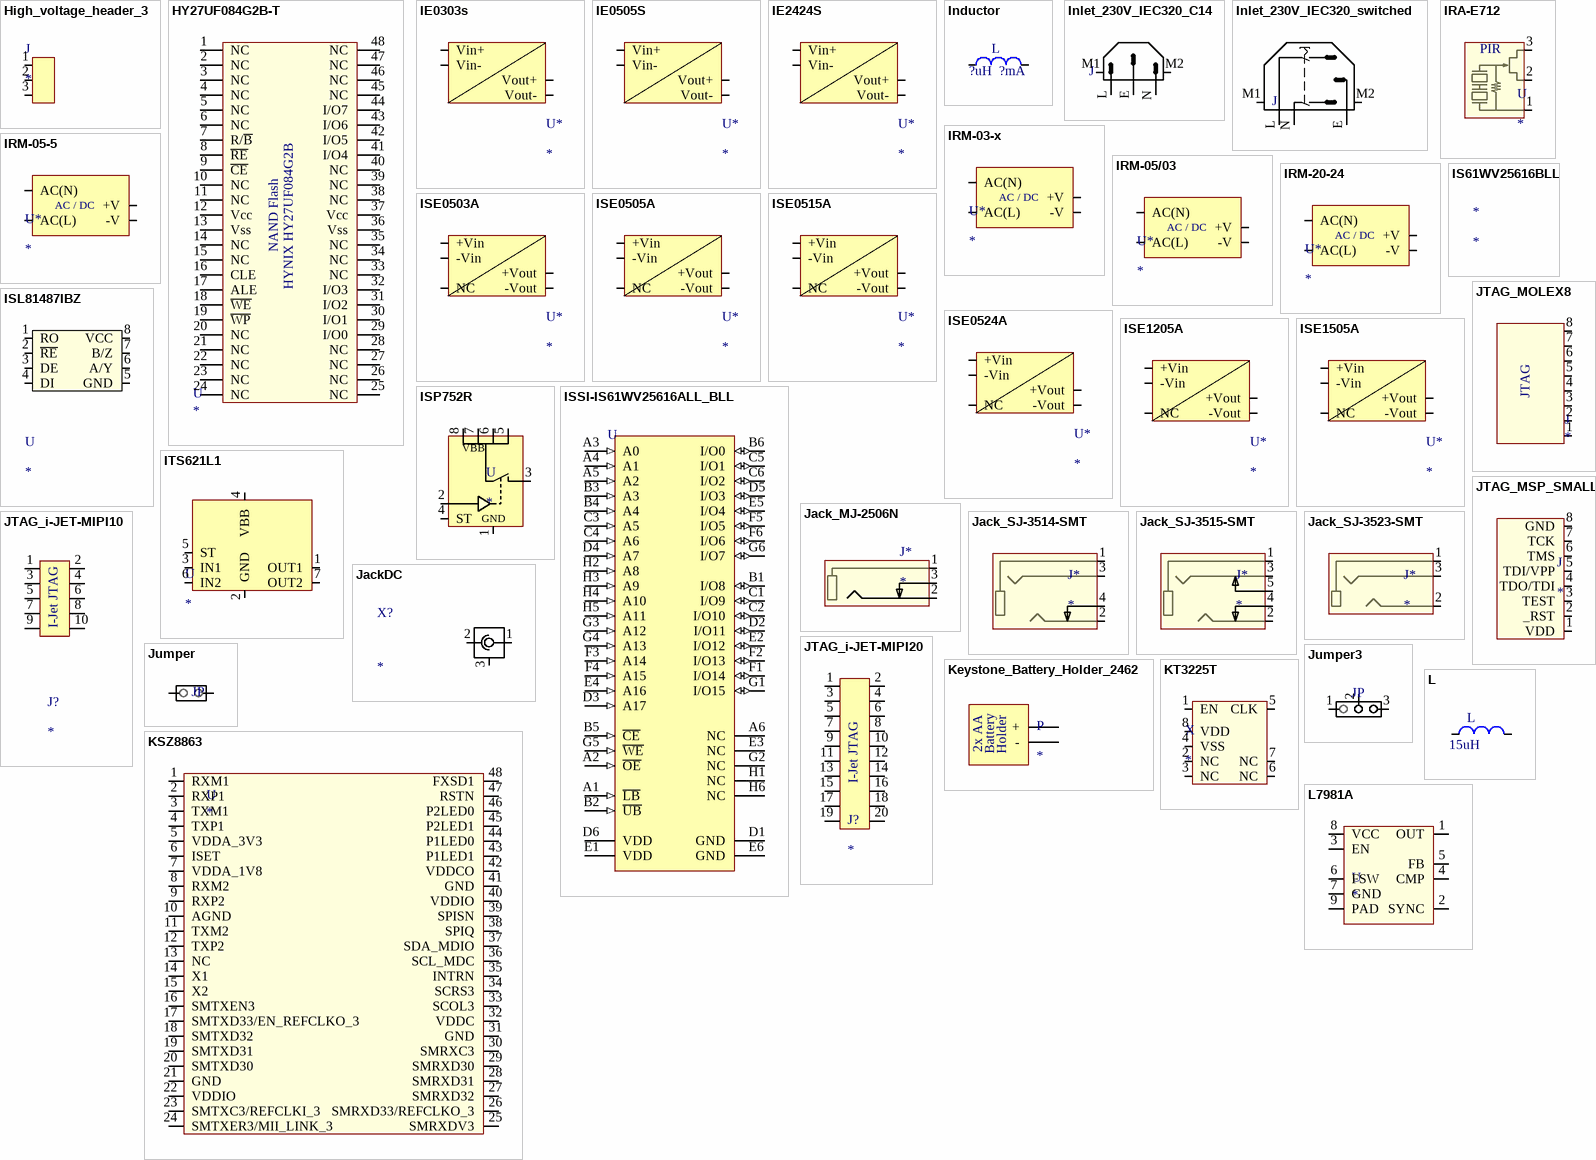
[diagram p4: symbols High_voltage_header_3 to L7981A]

## High_voltage_header_3
designator J
footprint HIGH_VOLTAGE_HDR3
pins: 1, 2, 3

## HY27UF084G2B-T
designator U
Farnell ref: 1712426
footprint TSOP48 (48 LEAD plastic thin small outline 12x20mm)
pins: 1 NC, 2 NC, 3 NC, 4 NC, 5 NC, 6 NC, 7 R/~{B}, 8 ~{RE}, 9 ~{CE}, 10 NC, 11 NC, 12 Vcc, 13 Vss, 14 NC, 15 NC, 16 CLE, 17 ALE, 18 ~{WE}, 19 ~{WP}, 20 NC, 21 NC, 22 NC, 23 NC, 24 NC, 25 NC, 26 NC, 27 NC, 28 NC, 29 I/O0, 30 I/O1, 31 I/O2, 32 I/O3, 33 NC, 34 NC, 35 NC, 36 Vss, 37 Vcc, 38 NC, 39 NC, 40 NC, 41 I/O4, 42 I/O5, 43 I/O6, 44 I/O7, 45 NC, 46 NC, 47 NC, 48 NC
text: NAND Flash; HYNIX HY27UF084G2B

## IE0303s
designator U*
Manufacturer: XP Power; Manufacturer PartNum: IE0303S; Digikey ref: 1470-2386-5-ND; status: *; Farnell ref: 8727694
footprint IE0303S (1 Watt 3.3V isolated DC/DC, 11.68x6x9.65mm)
pins: 1 Vin-, 2 Vin+, 3 Vout-, 4 Vout+

## IE0505S
designator U*
Digikey ref: 1470-1397-5-ND; status: *; Farnell ref: 8727694
footprint IE0505S (1 Watt 5V isolated DC/DC, 11.68x6x9.65mm)
pins: 1 Vin-, 2 Vin+, 3 Vout-, 4 Vout+

## IE2424S
designator U*
Digikey ref: 1470-1436-5-ND; status: *; Farnell ref: 1436140
footprint IE2424s (1 Watt 24V isolated DC/DC, 11.68x6x9.65mm)
pins: 1 Vin-, 2 Vin+, 3 Vout-, 4 Vout+

## Inductor
designator L  value ?uH  current: ?mA  (hidden comment: *)
Farnell ref: *; Digikey ref: *
footprint 0603c (standard 0603 FP)
footprint 0805 (standard 0805 FP)
footprint 1206 (1206 1.6x3.2mm)
footprint 1812 (3.2x4.5mm 1812 package)
footprint SMD_POWER_INDUCTOR (Bourns 12.5x12.5x7.5mm power inductor)
footprint SMD_POWER_INDUCTOR_DR74 (Bourns 7.6x7.6x4.35mm power inductor)
pins: 1, 2

## Inlet_230V_IEC320_C14
designator J  (value not drawn)
Digikey ref: 486-1007-ND; Farnell ref: 2080425
footprint SCHURTER_GSP1_IEC_C14 (Schurter IEC Appliance Inlet C14 Screw-on mounting, PCB terminals)
pins: E, L, M1, M2, N

## Inlet_230V_IEC320_switched
designator J  (value not drawn)
Power Entry Connector Receptacle, Male Blades; Manufacturer PartNum: DC21.0024.1111; Manufacturer: Schurter Inc; Digikey ref: 486-2253-ND
footprint SCHURTER_DC21.0024.1111 (Schurter IEC Appliance Inlet C14 Screw-on mounting, PCB terminals, switched with visual indicator)
pins: E, L, M1, M2, N

## IRA-E712
designator U
Farnell ref: 1006207
footprint IRA-e712_PIR_SENSOR (MURATA IRA-E700 series PIR sensor)
pins: 1 g, 2 s, 3 d
text: PIR

## IRM-03-x
designator U*
3W Single Output Encapsulated AC/DC
footprint IRM-03 (3W Single Output Encapsulated AC/DC)
pins: 1 AC(N), 2 AC(L), 3 -V, 4 +V
text: AC / DC

## IRM-05-5
designator U*
5W Single Output Encapsulated AC/DC; Pewatron ref: 040-00-409-0012; Mouser ref: 709-IRM05-5
footprint IRM-05-5 (5W Single Output Encapsulated AC/DC)
footprint IRM-05/03 (5W/3w Single Output Encapsulated AC/DC)
pins: 1 AC(N), 2 AC(L), 3 -V, 4 +V
text: AC / DC

## IRM-05/03
designator U*
5W/3W Single Output Encapsulated AC/DC; Pewatron ref: 040-00-409-0012; note: WARNING: choose betweeen IRM05 and IRM03 (regarding P/N); Mouser ref: 709-IRM05-5
footprint IRM-05/03 (5W/3w Single Output Encapsulated AC/DC)
pins: 1 AC(N), 2 AC(L), 3 -V, 4 +V
text: AC / DC

## IRM-20-24
designator U*
20W Single Output Encapsulated AC/DC; Pewatron ref: 040-00-409-0012; Mouser ref: 709-IRM20-24
footprint IRM-20-24 (20W Single Output Encapsulated AC/DC)
pins: 1 AC(N), 2 AC(L), 3 -V, 4 +V
text: AC / DC

## IS61WV25616BLL
designator *

## ISE0503A
designator U*
DC/DC CONV 1W SMD; Manufacturer: XP Power; Manufacturer PartNum: ISE0503A; Digikey ref: 1470-2977-5-ND; status: *
footprint ISE_DCDC (XP Power isolated DC/DC ISE series)
pins: 1 -Vin, 2 +Vin, 4 -Vout, 5 +Vout, 8 NC

## ISE0505A
designator U*
DC/DC CONV 1W SMD; Manufacturer: XP Power; Manufacturer PartNum: ISE0505A-TR; Digikey ref: 1470-2945-1-ND; status: *
footprint ISE_DCDC (XP Power isolated DC/DC ISE series)
pins: 1 -Vin, 2 +Vin, 4 -Vout, 5 +Vout, 8 NC

## ISE0515A
designator U*
DC/DC CONV 1W SMD; Manufacturer: XP Power; Manufacturer PartNum: ISE0515A-TR; Digikey ref: 1470-2946-1-ND; status: *
footprint ISE_DCDC (XP Power isolated DC/DC ISE series)
pins: 1 -Vin, 2 +Vin, 4 -Vout, 5 +Vout, 8 NC

## ISE0524A
designator U*
DC/DC CONV 1W SMD; Manufacturer: XP Power; Manufacturer PartNum: ISE0524A-TR; Digikey ref: 1470-2947-1-ND; status: *
footprint ISE_DCDC (XP Power isolated DC/DC ISE series)
pins: 1 -Vin, 2 +Vin, 4 -Vout, 5 +Vout, 8 NC

## ISE1205A
designator U*
DC/DC CONV 1W SMD; Manufacturer: XP Power; Manufacturer PartNum: ISE1205A; Alternate part: Recom Power R1SE-1205/H2-R; Digikey ref: 1470-2948-1-ND; status: *
footprint ISE_DCDC (XP Power isolated DC/DC ISE series)
pins: 1 -Vin, 2 +Vin, 4 -Vout, 5 +Vout, 8 NC

## ISE1505A
designator U*
DC/DC CONV 1W SMD; Manufacturer: XP Power; Manufacturer PartNum: ISE1505A; Digikey ref: 1470-2983-5-ND; status: *
footprint ISE_DCDC (XP Power isolated DC/DC ISE series)
pins: 1 -Vin, 2 +Vin, 4 -Vout, 5 +Vout, 8 NC

## ISL81487IBZ
designator U
IC TXRX RS485/422 5V HS 8-SOIC; Manufacturer: Intersil; Manufacturer PartNum: ISL81487IBZ; Digikey ref: ISL81487IBZ-ND
footprint soic8 (soic8 CMS 8 leads, pitch 1.27mm)
pins: 1 RO, 2 ~{RE}, 3 DE, 4 DI, 5 GND, 6 A/Y, 7 B/Z, 8 VCC

## ISP752R
designator U
High side switch for industrial applications; Farnell ref: 1440817
footprint PG-DSO-8 (DIL8,)
pins: 1 GND, 2 IN, 3 OUT, 4 ST, 5 Vbb, 6 Vbb, 7 Vbb, 8 Vbb
text: VBB

## ISSI-IS61WV25616ALL_BLL
designator U
Digikey ref: 706-1104-ND; Farnell ref: *
footprint mini-BGA-48 (BGA, 48-Balls, Body 8x6mm, Pitch 0.75mm)
pins: A1 ~{LB} (in) "Lower-byte Control (I/O0-I/O7)", A2 ~{OE} (in) "Output Enable Input", A3 A0 (in) "Address Input", A4 A1 (in) "Address Input", A5 A2 (in) "Address Input", A6 NC "No Connection", B1 I/O8 (io) "Data Input/Output", B2 ~{UB} (in) "Upper-byte Control (I/O8-I/O15)", B3 A3 (in) "Address Input", B4 A4 (in) "Address Input", B5 ~{CE} (in) "Chip Enable Input", B6 I/O0 (io) "Data Input/Output", C1 I/O9 (io) "Data Input/Output", C2 I/O10 (io) "Data Input/Output", C3 A5 (in) "Address Input", C4 A6 (in) "Address Input", C5 I/O1 (io) "Data Input/Output", C6 I/O2 (io) "Data Input/Output", D1 GND (power) "Ground", D2 I/O11 (io) "Data Input/Output", D3 A17 (in) "Address Input", D4 A7 (in) "Address Input", D5 I/O3 (io) "Data Input/Output", D6 VDD (power) "Power", E1 VDD (power) "Power", E2 I/O12 (io) "Data Input/Output", E3 NC "No Connection", E4 A16 (in) "Address Input", E5 I/O4 (io) "Data Input/Output", E6 GND (power) "Ground", F1 I/O14 (io) "Data Input/Output", F2 I/O13 (io) "Data Input/Output", F3 A14 (in) "Address Input", F4 A15 (in) "Address Input", F5 I/O5 (io) "Data Input/Output", F6 I/O6 (io) "Data Input/Output", G1 I/O15 (io) "Data Input/Output", G2 NC "No Connection", G3 A12 (in) "Address Input", G4 A13 (in) "Address Input", G5 ~{WE} (in) "Write Enable Input", G6 I/O7 (io) "Data Input/Output", H1 NC "No Connection", H2 A8 (in) "Address Input", H3 A9 (in) "Address Input", H4 A10 (in) "Address Input", H5 A11 (in) "Address Input", H6 NC "No Connection"